# Altium schematic symbol library Integrated_Curcuits.SCHLIB: 65 symbols (part 1 of 3)
Pins are listed as number, name and electrical type; pins without a type are passive.

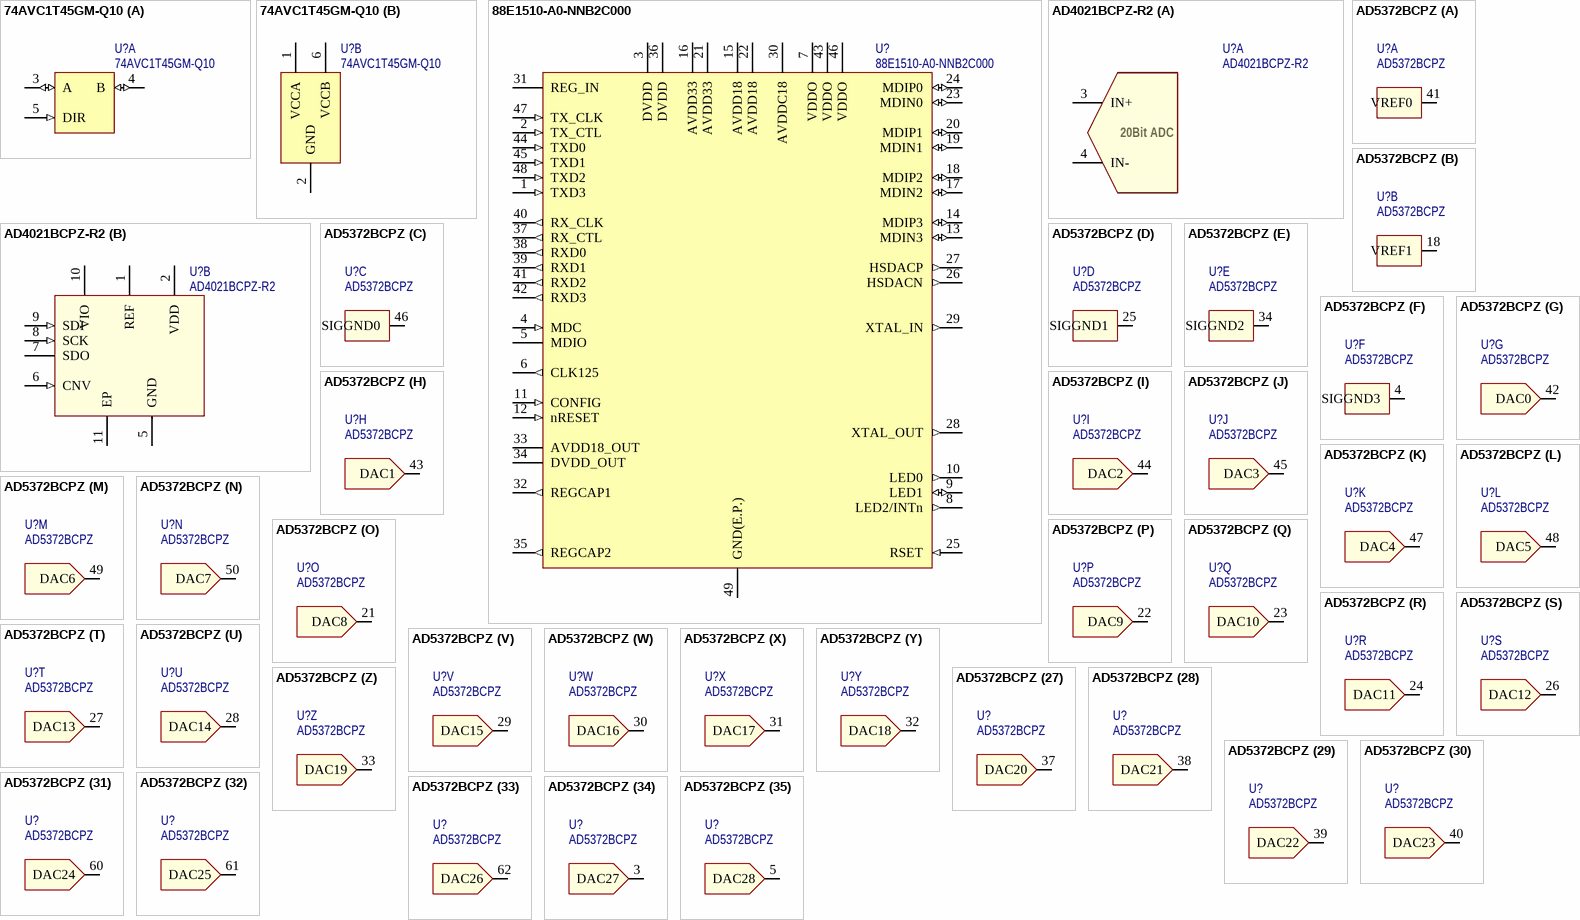
[diagram p0: symbols 74AVC1T45GM-Q10 to AD5372BCPZ]

## 74AVC1T45GM-Q10
designator U?
IC; Voltage Level Translator; Bidirectional; 1 Circuit; 1 Channel; 500Mbps; SOT886; Manufacturer: NEXPERIA; Manufacturer Part Number: 74AVC1T45GM-Q10; Supplier 1: Digi-key; ComponentLink1Description: Supplier Info; ComponentLink1URL: https://www.digikey.co.uk/en/products/detail/nexperia-usa-inc/74AVC1T45GM-Q100H/4020697?s=N4IgTCBcDaIIwHYwILQA4BsBmVGUDkAREAXQF8g; ComponentLink2Description: Datasheet; ComponentLink2URL: https://assets.nexperia.com/documents/data-sheet/74AVC1T45_Q100.pdf; Supplier Part Number 1: 1727-8637-1-ND; Value: 74AVC1T45GM-Q10
footprint NXP-SOT886 (SON, 6-Leads, Body 1.45x1.00mm, Pitch 0.50mm, IPC High Density)
part A pins: 3 A (io), 4 B (io), 5 DIR (in)
part B pins: 1 VCCA (power), 2 GND (power), 6 VCCB (power)

## 88E1510-A0-NNB2C000
designator U?
IC; Ethernet; 10/100/1000Mb/s; QFN48; Manufacturer: Marvell; Manufacturer Part Number: 88E1510-A0-NNB2C000; Supplier 1: Mouser; Supplier Part Number 1: 348-88E1510A0NNB2C00; ComponentLink1Description: Supplier Info; ComponentLink1URL: https://eu.mouser.com/ProductDetail/Marvell/88E1510-A0-NNB2C000?qs=%2Fha2pyFadujPvpXcm4trYvCwXzUYU8oAyO64EW4MIY0M8rmnB%2FMv6Nj0XhjAARXI; ComponentLink2Description: Datasheet; ComponentLink2URL: https://eu.mouser.com/datasheet/2/912/marvell-phys-transceivers-alaska-88e151x-datasheet-1360912.pdf; Value: 88E1510-A0-NNB2C000
footprint MARVEL-QFN48 (Footprint not found)
pins: 1 TXD3 (in), 2 TX_CTL (in), 3 DVDD (power), 4 MDC (in), 5 MDIO (hiz), 6 CLK125 (out), 7 VDDO (power), 8 LED2/INTn (out), 9 LED1 (io), 10 LED0 (out), 11 CONFIG (in), 12 nRESET (in), 13 MDIN3 (io), 14 MDIP3 (io), 15 AVDD18 (power), 16 AVDD33 (power), 17 MDIN2 (io), 18 MDIP2 (io), 19 MDIN1 (io), 20 MDIP1 (io), 21 AVDD33 (power), 22 AVDD18 (power), 23 MDIN0 (io), 24 MDIP0 (io), 25 RSET (in), 26 HSDACN (out), 27 HSDACP (out), 28 XTAL_OUT (out), 29 XTAL_IN (out), 30 AVDDC18 (power), 31 REG_IN (power), 32 REGCAP1 (out), 33 AVDD18_OUT (hiz), 34 DVDD_OUT (hiz), 35 REGCAP2 (out), 36 DVDD (power), 37 RX_CTL (out), 38 RXD0 (out), 39 RXD1 (out), 40 RX_CLK (out), 41 RXD2 (out), 42 RXD3 (out), 43 VDDO (power), 44 TXD0 (in), 45 TXD1 (in), 46 VDDO (power), 47 TX_CLK (in), 48 TXD2 (in), 49 GND(E.P.) (power)

## AD4021BCPZ-R2
designator U?
IC; ADC; 20Bit; SAR; LFCSP10; Manufacturer: Analog Devices Inc.; Manufacturer Part Number: AD4021BCPZ-R2; Supplier 1: Digi-Key; Supplier Part Number 1: 505-AD4021BCPZ-R2CT-ND; ComponentLink1Description: Supplier Info; ComponentLink1URL: https://www.digikey.co.uk/en/products/detail/analog-devices-inc/AD4021BCPZ-R2/11501302?s=N4IgTCBcDaIKwAY4FoCCARALAsBGAQgMIAKAWsgEpjoDSFyAcuiALoC%2BQA; ComponentLink2Description: Datasheet; ComponentLink2URL: https://www.analog.com/media/en/technical-documentation/data-sheets/AD4020-4021-4022.pdf; Value: AD4021BCPZ-R2
footprint CP-10-9 (10-LFCSP (3x3))
part A pins: 3 IN+, 4 IN-
part B pins: 1 REF, 2 VDD, 5 GND, 6 CNV (in), 7 SDO, 8 SCK (in), 9 SDI (in), 10 VIO, 11 EP
part A text: 20Bit ADC

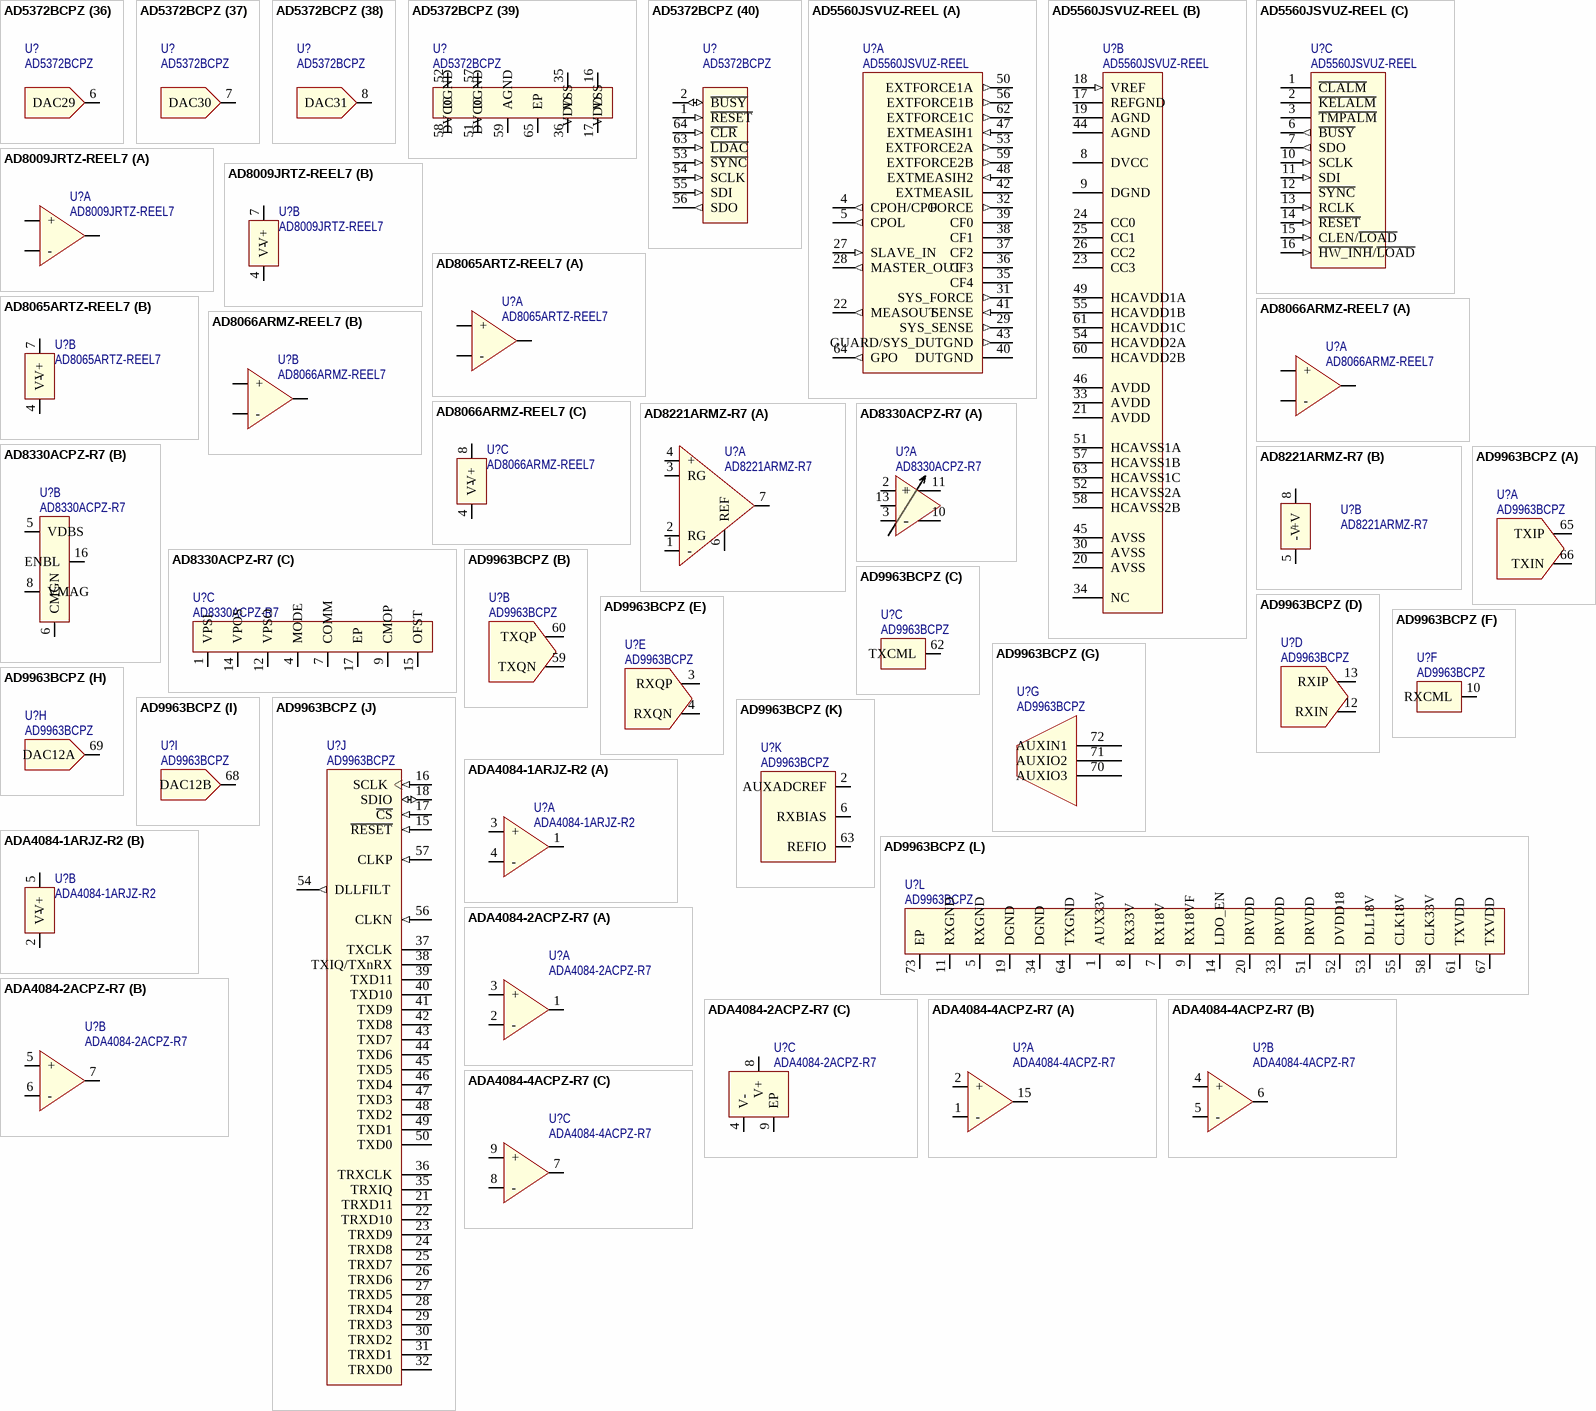
[diagram p1: symbols AD5372BCPZ to ADA4084-4ACPZ-R7]

## AD5372BCPZ
designator U?
IC; DAC; 16Bit; 32 Channel; Serial Input; LFCSP64; Manufacturer: Analog Devices Inc.; Manufacturer Part Number: AD5372BCPZ; Supplier 1: DigiKey; Supplier Part Number 1: AD5372BCPZ-ND; ComponentLink1Description: Supplier Info; ComponentLink1URL: https://www.digikey.co.uk/en/products/detail/analog-devices-inc/AD5372BCPZ/1534519?s=N4IgTCBcDaIIIBECsBmA7GAQgYQAoC0BaAOQRAF0BfIA; ComponentLink2Description: Datasheet; ComponentLink2URL: https://www.analog.com/media/en/technical-documentation/data-sheets/AD5372_5373.pdf; Value: AD5372BCPZ
footprint CP-64-3 (64-Lead Lead Frame Chip Scale Package [LFCSP_VQ])
part A pins: 41 VREF0
part B pins: 18 VREF1
part C pins: 46 SIGGND0
part D pins: 25 SIGGND1
part E pins: 34 SIGGND2
part F pins: 4 SIGGND3
part G pins: 42 DAC0
part H pins: 43 DAC1
part I pins: 44 DAC2
part J pins: 45 DAC3
part K pins: 47 DAC4
part L pins: 48 DAC5
part M pins: 49 DAC6
part N pins: 50 DAC7
part O pins: 21 DAC8
part P pins: 22 DAC9
part Q pins: 23 DAC10
part R pins: 24 DAC11
part S pins: 26 DAC12
part T pins: 27 DAC13
part U pins: 28 DAC14
part V pins: 29 DAC15
part W pins: 30 DAC16
part X pins: 31 DAC17
part Y pins: 32 DAC18
part Z pins: 33 DAC19
part 27 pins: 37 DAC20
part 28 pins: 38 DAC21
part 29 pins: 39 DAC22
part 30 pins: 40 DAC23
part 31 pins: 60 DAC24
part 32 pins: 61 DAC25
part 33 pins: 62 DAC26
part 34 pins: 3 DAC27
part 35 pins: 5 DAC28
part 36 pins: 6 DAC29
part 37 pins: 7 DAC30
part 38 pins: 8 DAC31
part 39 pins: 16 VDD, 17 VSS, 35 VDD, 36 VSS, 51 DGND, 52 DVCC, 57 DVCC, 58 DGND, 59 AGND, 65 EP
part 40 pins: 1 ~{RESET} (in), 2 ~{BUSY} (io), 53 ~{SYNC} (in), 54 SCLK (in), 55 SDI (in), 56 SDO (out), 63 ~{LDAC} (in), 64 ~{CLR} (in)
part 41 pins: 9 NC, 10 NC, 11 NC, 12 NC, 13 NC, 14 NC, 15 NC, 19 NC, 20 NC

## AD5560JSVUZ-REEL
designator U?
IC; Power Supply; TQFP64; Manufacturer: Analog Devices Inc.; Manufacturer Part Number: AD5560JSVUZ-REEL; Supplier 1: DigiKey; Supplier Part Number 1: AD5560JSVUZ-REELCT-ND; ComponentLink1Description: Supplier Info; ComponentLink1URL: https://www.digikey.co.uk/en/products/detail/analog-devices-inc/AD5560JSVUZ-REEL/2272167?s=N4IgTCBcDaIIIBECsSBsAGAUgZQGoFUAtAWgCUBRcgGQQGlTiA5BEAXQF8g; ComponentLink2Description: Datasheet; ComponentLink2URL: https://www.analog.com/media/en/technical-documentation/data-sheets/AD5560.pdf; Value: AD5560JSVUZ-REEL
footprint Q64.10x10E
part A pins: 4 CPOH/CPO (out), 5 CPOL (out), 22 MEASOUT (out), 27 SLAVE_IN (in), 28 MASTER_OUT (out), 29 SYS_SENSE (out), 31 SYS_FORCE (out), 32 FORCE (out), 35 CF4, 36 CF3, 37 CF2, 38 CF1, 39 CF0, 40 DUTGND (power), 41 SENSE (in), 42 EXTMEASIL, 43 GUARD/SYS_DUTGND (out), 47 EXTMEASIH1 (in), 48 EXTMEASIH2 (in), 50 EXTFORCE1A (out), 53 EXTFORCE2A (out), 56 EXTFORCE1B (out), 59 EXTFORCE2B (out), 62 EXTFORCE1C (out), 64 GPO (out)
part B pins: 8 DVCC (power), 9 DGND (power), 17 REFGND (power), 18 VREF (in), 19 AGND (power), 20 AVSS (power), 21 AVDD (power), 23 CC3, 24 CC0, 25 CC1, 26 CC2, 30 AVSS (power), 33 AVDD (power), 34 NC, 44 AGND (power), 45 AVSS (power), 46 AVDD (power), 49 HCAVDD1A (power), 51 HCAVSS1A (power), 52 HCAVSS2A (power), 54 HCAVDD2A (power), 55 HCAVDD1B (power), 57 HCAVSS1B (power), 58 HCAVSS2B (power), 60 HCAVDD2B (power), 61 HCAVDD1C (power), 63 HCAVSS1C (power)
part C pins: 1 ~{CLALM}, 2 ~{KELALM}, 3 ~{TMPALM}, 6 ~{BUSY} (out), 7 SDO (out), 10 SCLK (in), 11 SDI (in), 12 ~{SYNC}, 13 RCLK (in), 14 ~{RESET} (in), 15 CLEN/~{LOAD} (in), 16 ~{HW_INH}/~{LOAD} (in)

## AD8009JRTZ-REEL7
designator U?
IC; OPAMP; CFA; 845MHz; SOT23-5; Manufacturer: Analog Devices Inc.; Manufacturer Part Number: AD8009JRTZ-REEL7; Supplier 1: DigiKey; Supplier Part Number 1: AD8009JRTZ-REEL7CT-ND; ComponentLink1Description: Supplier Info; ComponentLink1URL: https://www.digikey.co.uk/en/products/detail/analog-devices-inc/AD8009JRTZ-REEL7/995931?s=N4IgTCBcDaIIIBEAcAGFBOAUgJQCoC0BabAURIBkB2BAaW0IDkEQBdAXyA; ComponentLink2Description: Datasheet; ComponentLink2URL: https://www.analog.com/media/en/technical-documentation/data-sheets/AD8009.pdf; Value: AD8009JRTZ-REEL7
simulation model AD8009AN (Model Description)
footprint SOT23-5 (SOT 23 5 lead); pin to pad 2>4 4>2 6>1 7>5
part A pins: 2 -, 3 +, 6 Out
part B pins: 4 V-, 7 V+

## AD8065ARTZ-REEL7
designator U?
IC; OPAMP; VFB; 145MHz; SOT23-5; Manufacturer: Analog Devices Inc.; Manufacturer Part Number: AD8065ARTZ-REEL7; Supplier 1: DigiKey; Supplier Part Number 1: AD8065ARTZ-REEL7CT-ND; ComponentLink1Description: Supplier Info; ComponentLink1URL: https://www.digikey.co.uk/en/products/detail/analog-devices-inc/AD8065ARTZ-REEL7/671052?s=N4IgTCBcDaIIIBEAcAGAbAVjgJQCoC0BabAURIBkB2BAaW0IDkEQBdAXyA; ComponentLink2Description: Datasheet; ComponentLink2URL: http://www.analog.com/media/en/technical-documentation/data-sheets/AD8065_8066.pdf; Value: AD8065ARTZ-REEL7
simulation model AD8065 (Model Description)
footprint SOT23-5 (SOT 23 5 lead)
part A pins: 1 Out, 3 +, 4 -
part B pins: 4 V-, 7 V+

## AD8066ARMZ-REEL7
designator U?
IC; OPAMP; VFB; 145MHz; MSOP8; Manufacturer: Analog Devices Inc.; Manufacturer Part Number: AD8066ARMZ-REEL7; Supplier 1: DigiKey; Supplier Part Number 1: AD8066ARMZ-REEL7CT-ND; ComponentLink1Description: Supplier Info; ComponentLink1URL: https://www.digikey.co.uk/en/products/detail/analog-devices-inc/AD8066ARMZ-REEL7/996103?s=N4IgTCBcDaIIIBEAcAGAbGuAlAsgLQFosBRYgGQHYEBpLAgOQRAF0BfIA; ComponentLink2Description: Datasheet; ComponentLink2URL: https://www.analog.com/media/en/technical-documentation/data-sheets/AD8065_8066.pdf; Value: AD8066ARMZ-REEL7
footprint MSOP8(RM-8) (8-Lead MSOP)
part A pins: 1 Out, 2 -, 3 +
part B pins: 5 +, 6 -, 7 Out
part C pins: 4 V-, 8 V+

## AD8221ARMZ-R7
designator U?
IC; Instrumentation Amplifier; 1 Circuit; MSOP8; Manufacturer: Analog Devices Inc.; Manufacturer Part Number: AD8221ARMZ-R7; Supplier 1: DigiKey; Supplier Part Number 1: AD8221ARMZ-R7CT-ND; ComponentLink1Description: Supplier Info; ComponentLink1URL: https://www.digikey.co.uk/en/products/detail/analog-devices-inc/AD8221ARMZ-R7/996058?s=N4IgTCBcDaIIIBEAcYwEY4CUCyAtAtJgOwIDSm%2BAcgiALoC%2BQA; ComponentLink2Description: Datasheet; ComponentLink2URL: https://www.analog.com/media/en/technical-documentation/data-sheets/AD8221.pdf; Value: AD8221ARMZ-R7
footprint MSOP8(RM-8) (8-Lead MSOP)
part A pins: 1 -, 2 RG, 3 RG, 4 +, 6 REF, 7 VOUT
part B pins: 5 -V (power), 8 +V (power)

## AD8330ACPZ-R7
designator U?
IC; OPAMP; VGA; 150MHz; LFCSP16; Manufacturer: Analog Devices Inc.; Manufacturer Part Number: AD8330ACPZ-R7; Supplier 1: DigiKey; Supplier Part Number 1: AD8330ACPZ-R7DKR-ND; ComponentLink1Description: Supplier Info; ComponentLink1URL: https://www.digikey.co.uk/en/products/detail/analog-devices-inc/AD8330ACPZ-R7/819985?s=N4IgTCBcDaIIIBEAcBmFAGOBhACgLQFoAlAdgQGkiCA5BEAXQF8g; ComponentLink2Description: Datasheet; ComponentLink2URL: https://www.analog.com/media/en/technical-documentation/data-sheets/AD8330.pdf; Value: AD8330ACPZ-R7
footprint CP-16-27 (16 lead LFCSP)
part A pins: 2 + "INHI", 3 - "INLO", 10 - "OPLO", 11 + "OPHI", 13 CNTR
part B pins: 5 VDBS, 6 CMGN "VDBS", 8 VMAG, 16 ENBL
part C pins: 1 VPSI, 4 MODE, 7 COMM, 9 CMOP, 12 VPSO, 14 VPOS, 15 OFST, 17 EP
1 alternate drawing of the same symbol

## AD9963BCPZ
designator U?
IC; Broadband Front-End; LFCSP72; Manufacturer: Analog Devices Inc.; Manufacturer Part Number: AD9963BCPZ; Supplier 1: DigiKey; Supplier Part Number 1: AD9963BCPZ-ND; ComponentLink1Description: Supplier Info; ComponentLink1URL: https://www.digikey.co.uk/en/products/detail/analog-devices-inc/AD9963BCPZ/2606835?s=N4IgTCBcDaIIIBECcSBsBmAQgYQAoC0BaAOQRAF0BfIA; ComponentLink2Description: Datasheet; ComponentLink2URL: https://www.analog.com/media/en/technical-documentation/data-sheets/AD9961_9963.pdf; Value: AD9963BCPZ
ibis AD9963 (Model Description)
footprint CP-72-4 (72 Lead LFCSP_VQ (10x10mm))
part A pins: 65 TXIP, 66 TXIN
part B pins: 59 TXQN, 60 TXQP
part C pins: 62 TXCML
part D pins: 12 RXIN, 13 RXIP
part E pins: 3 RXQP, 4 RXQN
part F pins: 10 RXCML
part G pins: 70 AUXIO3, 71 AUXIO2, 72 AUXIN1
part H pins: 69 DAC12A
part I pins: 68 DAC12B
part J pins: 15 ~{RESET} (in) "RESET", 16 SCLK (in) "CK", 17 ~{CS} (in) "STB", 18 SDIO (io), 21 TRXD11, 22 TRXD10, 23 TRXD9, 24 TRXD8, 25 TRXD7, 26 TRXD6, 27 TRXD5, 28 TRXD4, 29 TRXD3, 30 TRXD2, 31 TRXD1, 32 TRXD0, 35 TRXIQ, 36 TRXCLK, 37 TXCLK, 38 TXIQ/TXnRX, 39 TXD11, 40 TXD10, 41 TXD9, 42 TXD8, 43 TXD7, 44 TXD6, 45 TXD5, 46 TXD4, 47 TXD3, 48 TXD2, 49 TXD1, 50 TXD0, 54 DLLFILT (out), 56 CLKN (in), 57 CLKP (in)
part K pins: 2 AUXADCREF, 6 RXBIAS, 63 REFIO
part L pins: 1 AUX33V, 5 RXGND, 7 RX18V, 8 RX33V, 9 RX18VF, 11 RXGND, 14 LDO_EN, 19 DGND, 20 DRVDD, 33 DRVDD, 34 DGND, 51 DRVDD, 52 DVDD18, 53 DLL18V, 55 CLK18V, 58 CLK33V, 61 TXVDD, 64 TXGND, 67 TXVDD, 73 EP

## ADA4084-1ARJZ-R2
designator U?
IC; OPAMP; General Purpose; 1 Circuit; SOT23-5; Manufacturer: Analog Devices Inc.; Manufacturer Part Number: ADA4084-1ARJZ-R2; Supplier 1: DigiKey; Supplier Part Number 1: ADA4084-1ARJZ-R2CT-ND; ComponentLink1Description: Supplier Info; ComponentLink1URL: https://www.digikey.co.uk/en/products/detail/analog-devices-inc/ADA4084-1ARJZ-R2/5441104?s=N4IgTCBcDaIIIBE4BYAMAOZBaAjHASgFIBaW%2BYCA0vlgHIIgC6AvkA; ComponentLink2Description: Datasheet; ComponentLink2URL: https://www.analog.com/media/en/technical-documentation/data-sheets/ADA4084-1_4084-2_4084-4.pdf; Value: ADA4084-1ARJZ-R2
footprint SOT23-5 (SOT 23 5 lead)
part A pins: 1 VOUT, 3 +, 4 -
part B pins: 2 V-, 5 V+

## ADA4084-2ACPZ-R7
designator U?
IC; OPAMP; General Purpose; 2 Circuits; LFCSP8; Manufacturer: Analog Devices Inc.; Manufacturer Part Number: ADA4084-2ACPZ-R7; Supplier 1: DigiKey; Supplier Part Number 1: ADA4084-2ACPZ-R7-CT-ND; ComponentLink1Description: Supplier Info; ComponentLink1URL: https://www.digikey.co.uk/en/products/detail/analog-devices-inc/ADA4084-2ACPZ-R7/3542857?s=N4IgTCBcDaIIIBE4BYAMAOZBaMcDCACgFpYBKA7FggNKlYByCIAugL5A; ComponentLink2Description: Datasheet; ComponentLink2URL: https://www.analog.com/media/en/technical-documentation/data-sheets/ADA4084-1_4084-2_4084-4.pdf; Value: ADA4084-2ACPZ-R7
footprint CP-8-11 (8-Lead LFCSP (3X3))
part A pins: 1 OUTA, 2 -, 3 +
part B pins: 5 +, 6 -, 7 OUTB
part C pins: 4 V-, 8 V+, 9 EP

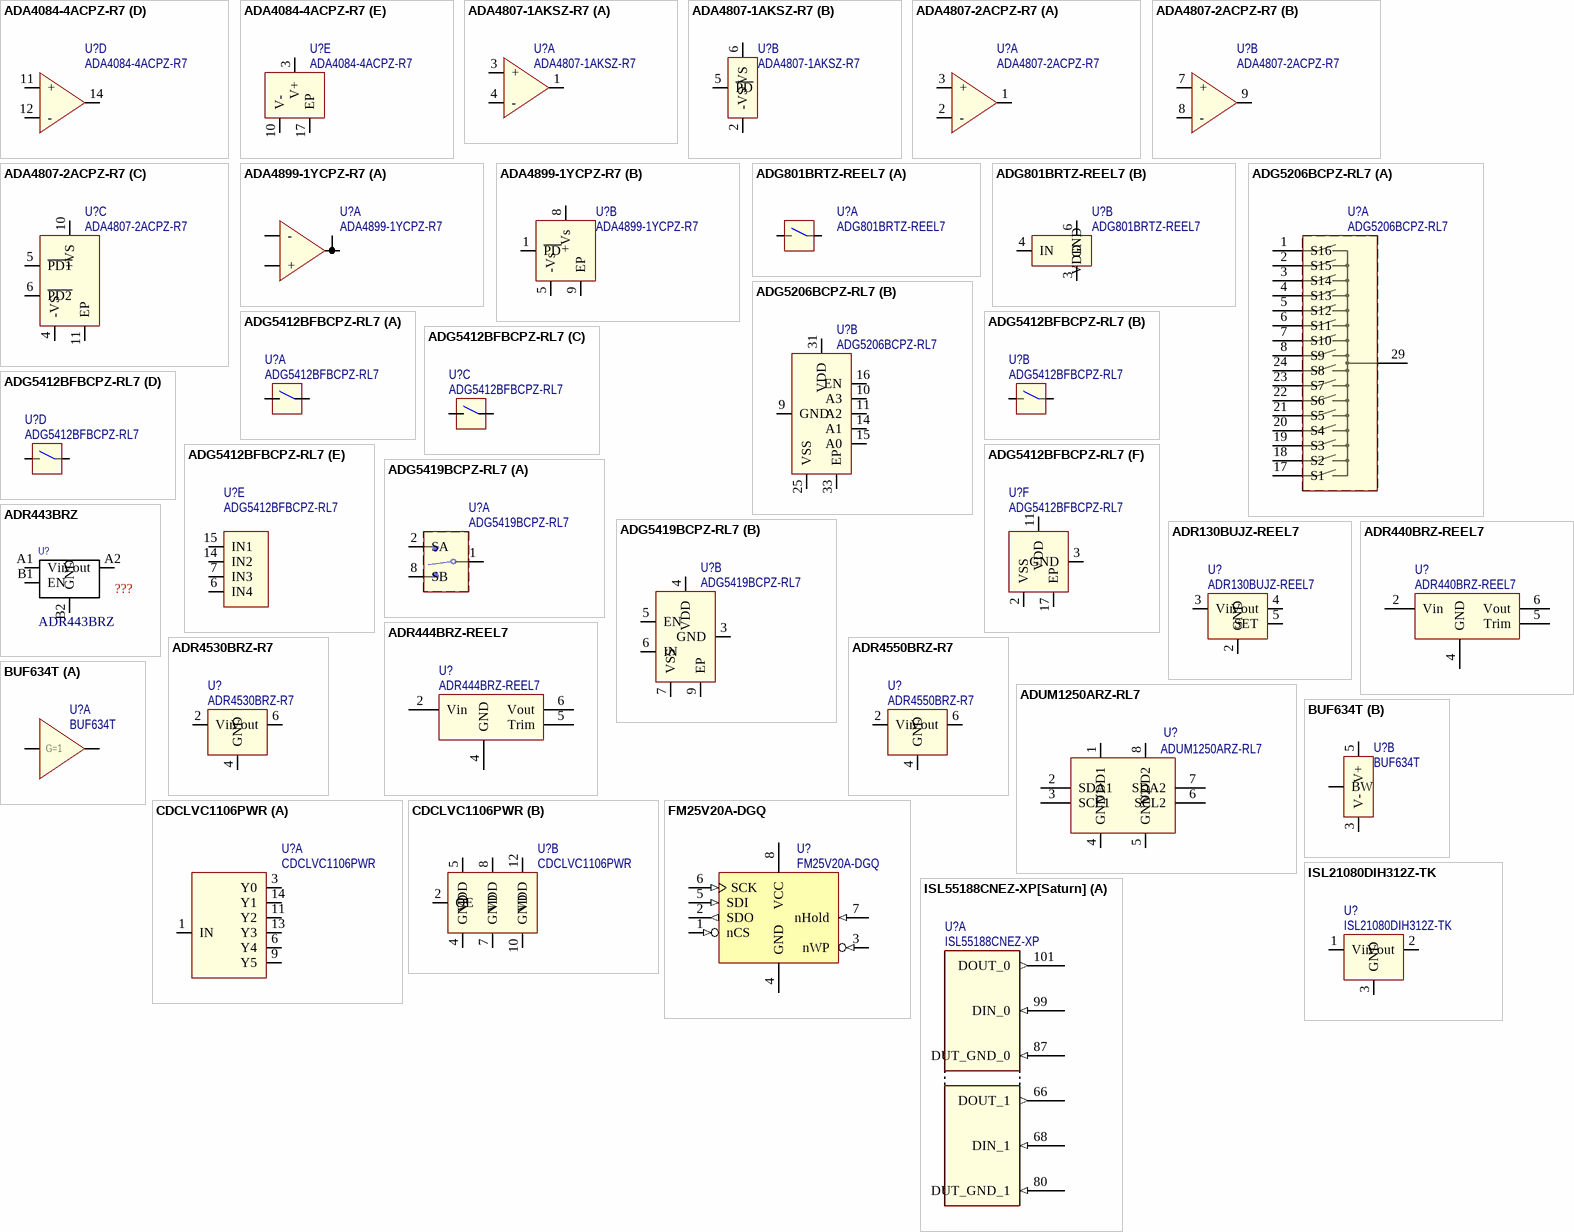
[diagram p2: symbols ADA4084-4ACPZ-R7 to ISL55188CNEZ-XP[Saturn]]

## ADA4084-4ACPZ-R7
designator U?
IC; OPAMP; General Purpose; 4 Circuits; LFCSP16; Manufacturer: Analog Devices Inc.; Manufacturer Part Number: ADA4084-4ACPZ-R7; Supplier 1: DigiKey; Supplier Part Number 1: ADA4084-4ACPZ-R7DKR-ND; ComponentLink1Description: Supplier Info; ComponentLink1URL: https://www.digikey.co.uk/en/products/detail/analog-devices-inc/ADA4084-4ACPZ-R7/4916394?s=N4IgTCBcDaIIIBE4BYAMAOZBaZcDCACgFpYBKA7AgNKlYByCIAugL5A; ComponentLink2Description: Datasheet; ComponentLink2URL: https://www.analog.com/media/en/technical-documentation/data-sheets/ADA4084-1_4084-2_4084-4.pdf; Value: ADA4084-4ACPZ-R7
footprint CP-16-17 (Lead Frame Chip Scale Package, 16-Lead, 4x4mm)
part A pins: 1 -, 2 +, 15 OUTA
part B pins: 4 +, 5 -, 6 OUTB
part C pins: 7 OUTC, 8 -, 9 +
part D pins: 11 +, 12 -, 14 OUTD
part E pins: 3 V+, 10 V-, 17 EP

## ADA4807-1AKSZ-R7
designator U?
IC; OPAMP; VFB; 1 Circuit; SC70-6; Manufacturer: Analog Devices Inc.; Manufacturer Part Number: ADA4807-1AKSZ-R7; Supplier 1: DigiKey; Supplier Part Number 1: ADA4807-1AKSZ-R7DKR-ND; ComponentLink1Description: Supplier Info; ComponentLink1URL: https://www.digikey.co.uk/en/products/detail/analog-devices-inc/ADA4807-1AKSZ-R7/5056858?s=N4IgTCBcDaIIIBE4BYAcAGA7AWgIxwGkBlALWwCVMEDzsA5BEAXQF8g; ComponentLink2Description: Datasheet; ComponentLink2URL: https://www.analog.com/media/en/technical-documentation/data-sheets/ADA4807-1_4807-2_4807-4.pdf; Value: ADA4807-1AKSZ-R7
footprint SC70-6
part A pins: 1 VOUT, 3 +, 4 -
part B pins: 2 -VS, 5 ~{PD}, 6 +VS

## ADA4807-2ACPZ-R7
designator U?
IC; OPAMP; VFB; 1 Circuit; LFCSP10; Manufacturer: Analog Devices Inc.; Manufacturer Part Number: ADA4807-2ACPZ-R7; Supplier 1: DigiKey; Supplier Part Number 1: ADA4807-2ACPZ-R7TR-ND; ComponentLink1Description: Supplier Info; ComponentLink1URL: https://www.digikey.co.uk/en/products/detail/analog-devices-inc/ADA4807-2ACPZ-R7/5268025?s=N4IgTCBcDaIIIBE4BYAcAGA7AWjHAwgAoBa2ASpgCpnYByCIAugL5A; ComponentLink2Description: Datasheet; ComponentLink2URL: https://www.analog.com/media/en/technical-documentation/data-sheets/ADA4807-1_4807-2_4807-4.pdf; Value: ADA4807-2ACPZ-R7
footprint CP-10-9 (10-LFCSP (3x3))
part A pins: 1 VOUT, 2 -, 3 +
part B pins: 7 +, 8 -, 9 VOUT2
part C pins: 4 -VS, 5 ~{PD1}, 6 ~{PD2}, 10 +VS, 11 EP

## ADA4899-1YCPZ-R7
designator U?
IC; OPAMP; VFB; 600MHz; LFCSP8; Manufacturer: Analog Devices Inc.; Manufacturer Part Number: ADA4899-1YCPZ-R7; Supplier 1: DigiKey; Supplier Part Number 1: ADA4899-1YCPZ-R7DKR-ND; ComponentLink1Description: Supplier Info; ComponentLink1URL: https://www.digikey.co.uk/en/products/detail/analog-devices-inc/ADA4899-1YCPZ-R7/1201182?s=N4IgTCBcDaIIIBE4BYAcBOdBaAjATQGEAFALSwCUB2BAaXKwDkEQBdAXyA; ComponentLink2Description: Datasheet; ComponentLink2URL: https://www.analog.com/media/en/technical-documentation/data-sheets/ADA4899-1.pdf; Value: ADA4899-1YCPZ-R7
footprint CP-8-13
part A pins: 2 FB, 3 -, 4 +, 7 OUT
part B pins: 1 ~{PD}, 5 -Vs, 8 +Vs, 9 EP
1 alternate drawing of the same symbol

## ADG801BRTZ-REEL7
designator U?
IC; Switch; SPST-NO; 1:1; 300mR; SOT23-6; Manufacturer: Analog Devices Inc.; Manufacturer Part Number: ADG801BRTZ-REEL7; Supplier 1: DigiKey; Supplier Part Number 1: ADG801BRTZ-REEL7TR-ND; ComponentLink1Description: Supplier Info; ComponentLink1URL: https://www.digikey.co.uk/en/products/detail/analog-devices-inc/ADG801BRTZ-REEL7/995397?s=N4IgTCBcDaIIIBEDiAOADARgEICUAqAWgLQ4CipAMgOx45EByCIAugL5A; ComponentLink2Description: Datasheet; ComponentLink2URL: https://www.analog.com/media/en/technical-documentation/data-sheets/ADG801_802.pdf; Value: ADG801BRTZ-REEL7
footprint SOT23-6 (RJ-6)
part A pins: 1 D, 2 S
part B pins: 3 GND, 4 IN, 6 VDD (power)

## ADG5206BCPZ-RL7
designator U?
IC; MUX; 1 Circuit X 16:1; LFCSP32; Manufacturer: Analog Devices; Manufacturer Part Number: ADG5206BCPZ-RL7; Supplier 1: Digi-Key; Supplier Part Number 1: ADG5206BCPZ-RL7CT-ND; ComponentLink1Description: Supplier Info; ComponentLink1URL: https://www.digikey.co.uk/en/products/detail/analog-devices-inc/ADG5206BCPZ-RL7/4250212?s=N4IgTCBcDaIIIBEDiBWMAGAbAIQMIAUAtAWgCUAZAdlwBViA5BEAXQF8g; ComponentLink2Description: Datasheet; ComponentLink2URL: http://www.analog.com/media/en/technical-documentation/data-sheets/ADG5206_5207.pdf; Value: ADG5206BCPZ-RL7
footprint LFCSP32
part A pins: 1 S16, 2 S15, 3 S14, 4 S13, 5 S12, 6 S11, 7 S10, 8 S9, 17 S1, 18 S2, 19 S3, 20 S4, 21 S5, 22 S6, 23 S7, 24 S8, 29 DA
part B pins: 9 GND, 10 A3, 11 A2, 14 A1, 15 A0, 16 EN, 25 VSS (power), 31 VDD (power), 33 EP (power)

## ADG5412BFBCPZ-RL7
designator U?
IC; Switch; 4 Circuits; SPST-NO; LFCSP16; Manufacturer: Analog Devices Inc.; Manufacturer Part Number: ADG5412BFBCPZ-RL7; Supplier 1: DigiKey; Supplier Part Number 1: ADG5412BFBCPZ-RL7DKR-ND; ComponentLink1Description: Supplier Info; ComponentLink1URL: https://www.digikey.co.uk/en/products/detail/analog-devices-inc/ADG5412BFBCPZ-RL7/5232898?s=N4IgTCBcDaIIIBEDiBWALARjAIQGLYGEAFALQFoAlAGQHYEBpCsgOQRAF0BfIA; ComponentLink2Description: Datasheet; ComponentLink2URL: https://www.analog.com/media/en/technical-documentation/data-sheets/ADG5412BF_5413BF.pdf; Value: ADG5412BFBCPZ-RL7
footprint CP-16-17 (16 lead LFCSP 4x4mm)
part A pins: 1 S1, 16 D1
part B pins: 12 S2, 13 D2
part C pins: 8 D3, 9 S3
part D pins: 4 S4, 5 D4
part E pins: 6 IN4, 7 IN3, 14 IN2, 15 IN1
part F pins: 2 VSS (power), 3 GND, 11 VDD (power), 17 EP (power)

## ADG5419BCPZ-RL7
designator U?
IC; Switch; 1 Circuit 2:1 ; SPDT; LFCSP8; Manufacturer: Analog Devices Inc.; Manufacturer Part Number: ADG5419BCPZ-RL7; Supplier 1: DigiKey; Supplier Part Number 1: ADG5419BCPZ-RL7DKR-ND; ComponentLink1Description: Supplier Info; ComponentLink1URL: https://www.digikey.co.uk/en/products/detail/analog-devices-inc/ADG5419BCPZ-RL7/5233063?s=N4IgTCBcDaIIIBEDiBWALARgJwCEDCACgFoC0ASgDIDsCA0mSQHIIgC6AvkA; ComponentLink2Description: Datasheet; ComponentLink2URL: https://www.analog.com/media/en/technical-documentation/data-sheets/ADG5419.pdf; Value: ADG5419BCPZ-RL7
footprint CP-8-4 (8-Lead LFCSP_WD (2x3mm))
part A pins: 1 D, 2 SA, 8 SB
part B pins: 3 GND, 4 VDD (power), 5 EN, 6 IN, 7 VSS (power), 9 EP (power)

## ADR130BUJZ-REEL7
designator U?
IC: Series VREF; 0.35%; TSOT6; Manufacturer: Analog Devices Inc.; Manufacturer Part Number: ADR130BUJZ-REEL7; Supplier 1: DigiKey; Supplier Part Number 1: ADR130BUJZ-REEL7DKR-ND; ComponentLink1Description: Supplier Info; ComponentLink1URL: https://www.digikey.co.uk/en/products/detail/analog-devices-inc/ADR130BUJZ-REEL7/1530758?s=N4IgTCBcDaIIIBEBKBGAzABgEIFUBSAWgLRICipAMgOwIDSSRAcgiALoC%2BQA; ComponentLink2Description: Datasheet; ComponentLink2URL: https://www.analog.com/media/en/technical-documentation/data-sheets/ADR130.pdf; Value: ADR130BUJZ-REEL7
footprint UJ-6 (6-Lead Thin Small Outline Transistor Package [TSOT])
pins: 2 GND, 3 Vin, 4 Vout, 5 SET

## ADR440BRZ-REEL7
designator U?
IC; Series VREF; 2.048V; 0.05%; SOIC8; Manufacturer: Analog Devices Inc.; Manufacturer Part Number: ADR440BRZ-REEL7; Supplier 1: DigiKey; Supplier Part Number 1: ADR440BRZ-REEL7DKR-ND; ComponentLink1Description: Supplier Info; ComponentLink1URL: https://www.digikey.co.uk/en/products/detail/analog-devices-inc/ADR440BRZ-REEL7/1218279?s=N4IgTCBcDaIIIBEBKAWFAGAQkgWgWiQFFCAZAdgQGkk8A5BEAXQF8g; ComponentLink2Description: Datasheet; ComponentLink2URL: https://www.analog.com/media/en/technical-documentation/data-sheets/ADR440_441_443_444_445.pdf; Value: ADR440BRZ-REEL7
footprint SOIC8 (R-8) (Generic 8 lead SOIC Narrow Body)
pins: 2 Vin, 4 GND, 5 Trim, 6 Vout

## ADR443BRZ
designator U?
IC REG LINEAR 1.8V 150MA 4WLCSP; Manufacturer: Analog Devices Inc.; Manufacturer Part Number: ADR443BRZ; Supplier 1: DigiKey; Supplier Part Number 1: ADR443BRZ-ND; ComponentLink1Description: Supplier Info; ComponentLink1URL: https://www.digikey.co.uk/en/products/detail/analog-devices-inc/ADR443BRZ/1217605?s=N4IgTCBcDaIIIBEBKAWFBmAQkgWgWgDkEQBdAXyA; ComponentLink2Description: Datasheet; ComponentLink2URL: https://www.analog.com/media/en/technical-documentation/data-sheets/ADR440_441_443_444_445.pdf; Value: ADR443BRZ
footprint CB-4-1 (4-Ball WLCSP)
pins: A1 Vin, A2 Vout, B1 EN, B2 GND
text: ???

## ADR444BRZ-REEL7
designator U?
IC; Series VREF; 4.096V; 0.04%; SOIC8; Manufacturer: Analog Devices Inc.; Manufacturer Part Number: ADR444BRZ-REEL7; Supplier 1: DigiKey; Supplier Part Number 1: ADR444BRZ-REEL7DKR-ND; ComponentLink1Description: Supplier Info; ComponentLink1URL: https://www.digikey.co.uk/en/products/detail/analog-devices-inc/ADR444BRZ-REEL7/1218292?s=N4IgTCBcDaIIIBEBKAWNAhJAtAtEgovgDIDsCA0kjgHIIgC6AvkA; ComponentLink2Description: Datasheet; ComponentLink2URL: https://www.analog.com/media/en/technical-documentation/data-sheets/ADR440_441_443_444_445.pdf; Value: ADR444BRZ-REEL7
footprint SOIC8 (R-8) (Generic 8 lead SOIC Narrow Body)
pins: 2 Vin, 4 GND, 5 Trim, 6 Vout

## ADR4530BRZ-R7
designator U?
IC; Series VREF; 3V; 0.02%; SOIC8; Manufacturer: Analog Devices Inc.; Manufacturer Part Number: ADR4530BRZ-R7; Supplier 1: DigiKey; Supplier Part Number 1: 505-ADR4530BRZ-R7DKR-ND; ComponentLink1Description: Supplier Info; ComponentLink1URL: https://www.digikey.co.uk/en/products/detail/analog-devices-inc/ADR4530BRZ-R7/3542869?s=N4IgTCBcDaIKwAY4FoCCARASgFjgZgQCFMAtZTAdnQGlNkA5dEAXQF8g; ComponentLink2Description: Datasheet; ComponentLink2URL: https://www.analog.com/media/en/technical-documentation/data-sheets/ADR4520_4525_4530_4533_4540_4550.pdf; Value: ADR4530BRZ-R7
footprint SOIC8 (R-8) (Generic 8 lead SOIC Narrow Body)
pins: 2 Vin, 4 GND, 6 Vout

## ADR4550BRZ-R7
designator U?
IC; Series VREF; 5V; 0.02%; SOIC8; Manufacturer: Analog Devices Inc.; Manufacturer Part Number: ADR4550BRZ-R7; Supplier 1: DigiKey; Supplier Part Number 1: ADR4550BRZ-R7DKR-ND; ComponentLink1Description: Supplier Info; ComponentLink1URL: https://www.digikey.co.uk/en/products/detail/analog-devices-inc/ADR4550BRZ-R7/3232887?s=N4IgTCBcDaIIIBEBKAWArGgDAISQLQFokB2BAaSQIDkEQBdAXyA; ComponentLink2Description: Datasheet; ComponentLink2URL: https://www.analog.com/media/en/technical-documentation/data-sheets/ADR4520_4525_4530_4533_4540_4550.pdf; Value: ADR4550BRZ-R7
footprint SOIC8 (R-8) (Generic 8 lead SOIC Narrow Body)
pins: 2 Vin, 4 GND, 6 Vout

## ADUM1250ARZ-RL7
designator U?
IC; I2C Digital Isolator; 2500Vrms; 2 Channel; SOIC8; Manufacturer: Analog Devices Inc.; Manufacturer Part Number: ADUM1250ARZ-RL7; Supplier 1: DigiKey; Supplier Part Number 1: ADUM1250ARZ-RL7DKR-ND; ComponentLink1Description: Supplier Info; ComponentLink1URL: https://www.digikey.co.uk/en/products/detail/analog-devices-inc/ADUM1250ARZ-RL7/1240292?s=N4IgTCBcDaIIIBECqBZAjGArABjgJQC0BaPAGQHYEBpPIgOQRAF0BfIA; ComponentLink2Description: Datasheet; ComponentLink2URL: https://www.analog.com/media/en/technical-documentation/data-sheets/ADUM1250_1251.pdf; Value: ADUM1250ARZ-RL7
footprint SOIC8 (R-8) (Generic 8 lead SOIC Narrow Body)
pins: 1 VDD1, 2 SDA1, 3 SCL1, 4 GND1, 5 GND2, 6 SCL2, 7 SDA2, 8 VDD2

## BUF634T
designator U?
IC; Buffer Amplifier; 1 Circuit; 180MHz; TO220-5; Manufacturer: Texas Instruments; Manufacturer Part Number: BUF634T; Supplier 1: DigiKey; Supplier Part Number 1: BUF634T-ND; ComponentLink1Description: Supplier Info; ComponentLink1URL: https://www.digikey.de/product-detail/en/texas-instruments/BUF634T/BUF634T-ND/251039; ComponentLink2Description: Datasheet; ComponentLink2URL: http://www.ti.com/lit/ds/symlink/buf634.pdf; Value: BUF634T
footprint TO-220-5-Standing
part A pins: 2 IN, 4 OUT
part B pins: 1 BW, 3 V-, 5 V+
part A text: G=1

## CDCLVC1106PWR
designator U?
IC; Clock Fanout Buffer; 1:6; 250MHz; TSSOP14; Manufacturer: Texas Instruments; Manufacturer Part Number: CDCLVC1106PWR; Supplier 1: DigiKey; Supplier Part Number 1: 296-27588-6-ND; ComponentLink1Description: Supplier Info; ComponentLink1URL: https://www.digikey.co.uk/en/products/detail/texas-instruments/CDCLVC1106PWR/2336535?s=N4IgTCBcDa4JwDYC0YDsBWAHJpyByAIiALoC%2BQA; ComponentLink2Description: Datasheet; ComponentLink2URL: http://www.ti.com/lit/ds/symlink/cdclvc1104.pdf; Value: CDCLVC1106PWR
footprint TSSOP14(R-PDSO-G14)
part A pins: 1 IN, 3 Y0, 6 Y4, 9 Y5, 11 Y2, 13 Y3, 14 Y1
part B pins: 2 OE, 4 GND, 5 VDD, 7 GND, 8 VDD, 10 GND, 12 VDD

## FM25V20A-DGQ
designator U?
IC; FRAM; 2Mb (256Kx8); SPI; 40MHz; TDFN8; Manufacturer: Cypress Semiconductor Corp; Manufacturer Part Number: FM25V20A-DGQ; Supplier 1: DigiKey; Supplier Part Number 1: 428-3378-5-ND; ComponentLink1Description: Supplier Info; ComponentLink1URL: https://www.digikey.co.uk/en/products/detail/cypress-semiconductor-corp/FM25V20A-DGQ/5113877?s=N4IgTCBcDaICxgBwFoDMqDsKCsyByAIiALoC%2BQA; ComponentLink2Description: Datasheet; ComponentLink2URL: https://www.cypress.com/file/136076/download; Value: FM25V20A-DGQ
footprint TDFN8
pins: 1 nCS (in), 2 SDO (out), 3 nWP (in), 4 GND (power), 5 SDI (in), 6 SCK (in), 7 nHold (in), 8 VCC (power)

## ISL21080DIH312Z-TK
designator U?
IC; Series VREF; 1.25V; 0.6%; SOT23-3; Manufacturer: Renesas Electronics America Inc.; Manufacturer Part Number: ISL21080DIH312Z-TK; Supplier 1: DigiKey; Supplier Part Number 1: ISL21080DIH312Z-TKDKR-ND; ComponentLink1Description: Supplier Info; ComponentLink1URL: https://www.digikey.co.uk/en/products/detail/renesas-electronics-america-inc/ISL21080DIH312Z-TK/2551515?s=N4IgTCBcDaIJIGUAyYCMAGAHOgInAEgMypgBaAtACoDSO1ASuQHI4gC6AvkA; ComponentLink2Description: Datasheet; ComponentLink2URL: http://www.intersil.com/content/dam/Intersil/documents/isl2/isl21080.pdf; Value: ISL21080DIH312Z-TK
footprint SOT23
pins: 1 Vin, 2 Vout, 3 GND

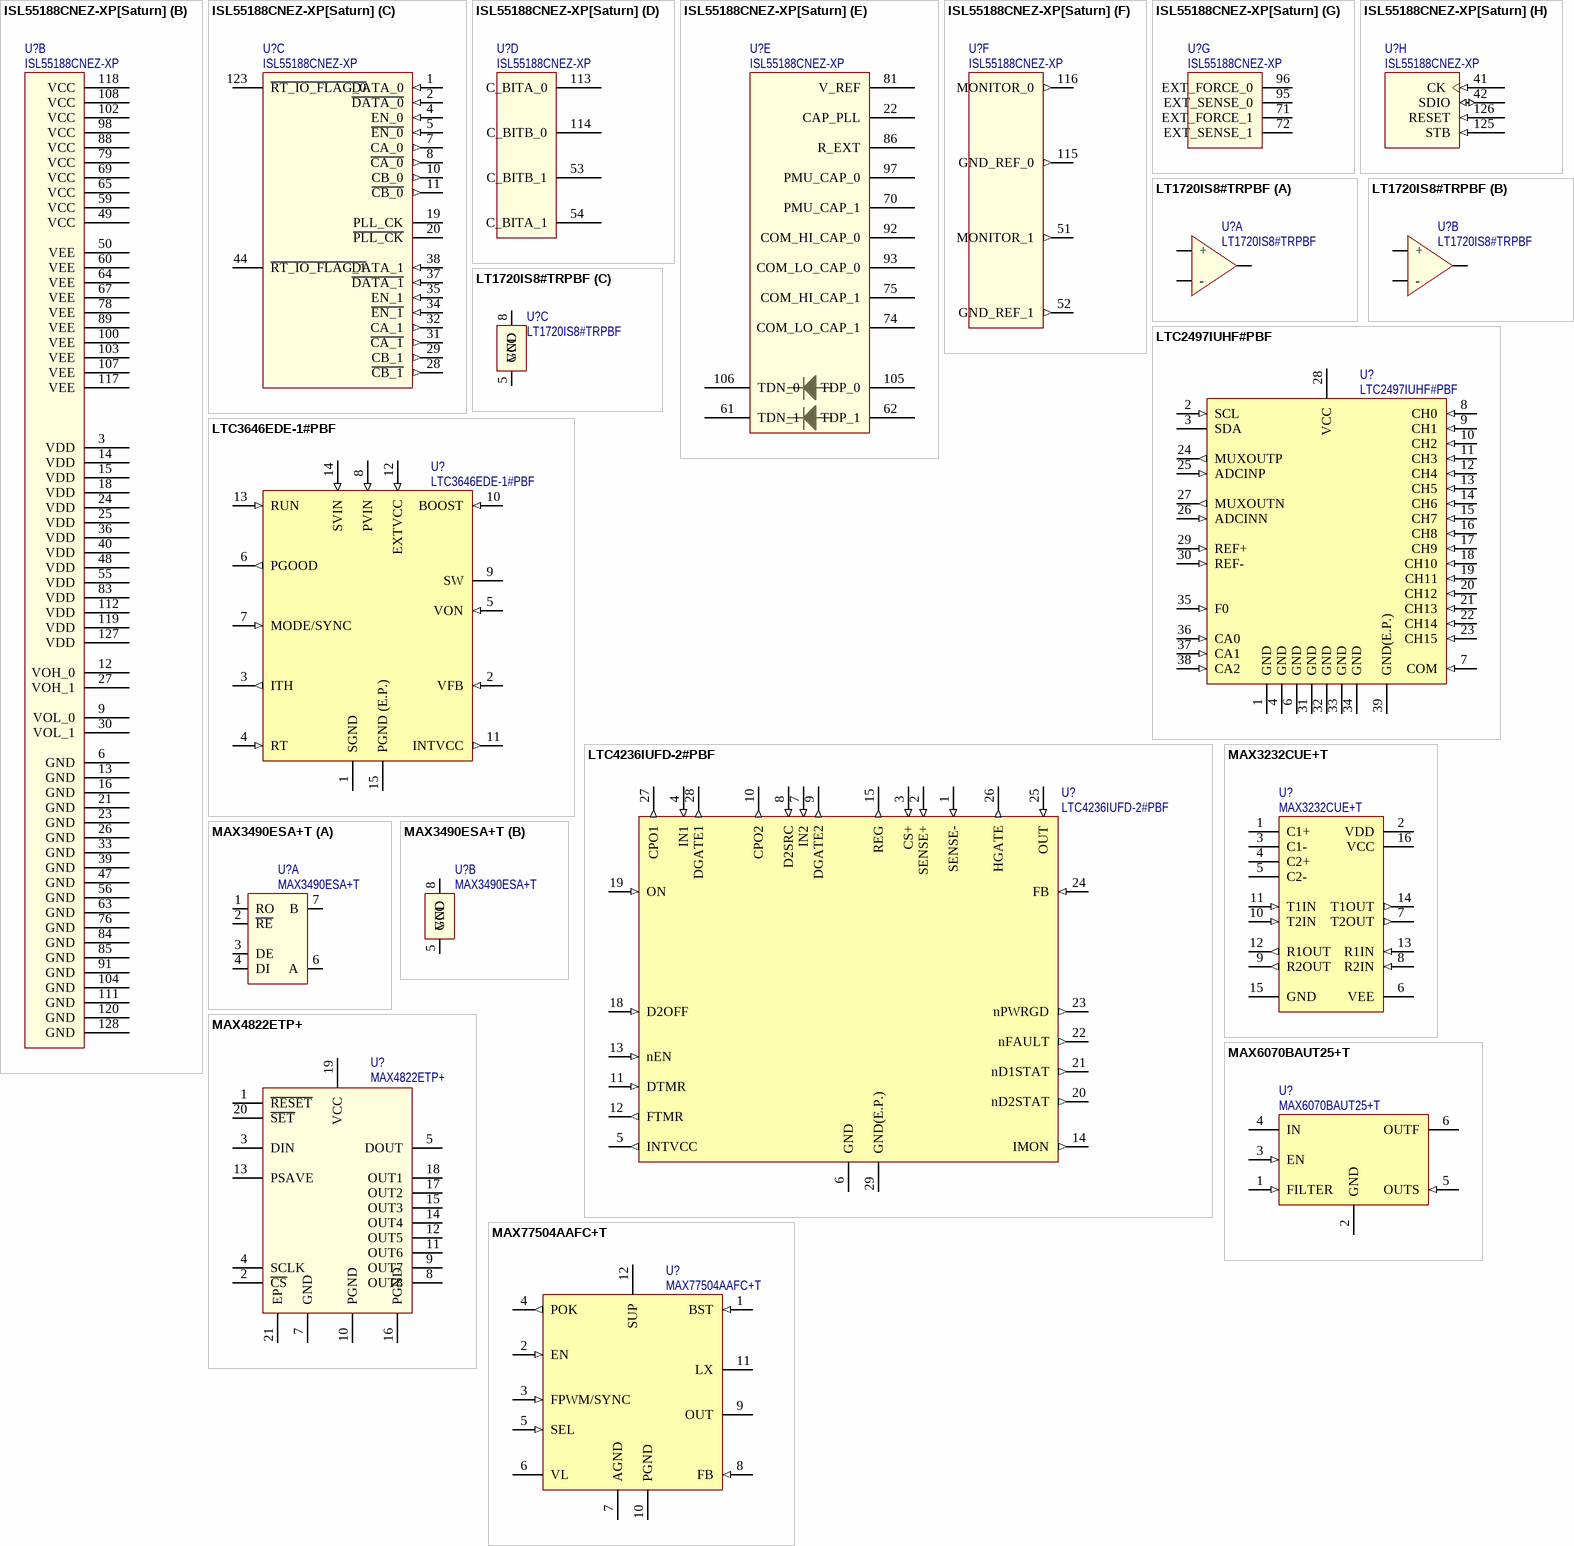
[diagram p3: symbols ISL55188CNEZ-XP[Saturn] to MAX77504AAFC+T]

## ISL55188CNEZ-XP[Saturn]
designator U?, comment ISL55188CNEZ-XP
Dual Channel, DCL + PMU (24V/75MHz); Manufacturer: ElevATE; Manufacturer Part Number: ISL55188CNEZ-XP; Supplier 1: ElevATE; Supplier Part Number 1: ISL55188CNEZ-XP; ComponentLink1Description: Supplier Info; ComponentLink2Description: Datasheet; Value: ISL55188CNEZ-XP
footprint Q128.14x20B
part A pins: 66 DOUT_1 (out), 68 DIN_1 (in), 80 DUT_GND_1 (in), 87 DUT_GND_0 (in), 99 DIN_0 (in), 101 DOUT_0 (out)
part B pins: 3 VDD (power), 6 GND (power), 9 VOL_0 (power), 12 VOH_0 (power), 13 GND (power), 14 VDD (power), 15 VDD (power), 16 GND (power), 18 VDD (power), 21 GND (power), 23 GND (power), 24 VDD (power), 25 VDD (power), 26 GND (power), 27 VOH_1 (power), 30 VOL_1 (power), 33 GND (power), 36 VDD (power), 39 GND (power), 40 VDD (power), 47 GND (power), 48 VDD (power), 49 VCC (power), 50 VEE (power), 55 VDD (power), 56 GND (power), 59 VCC (power), 60 VEE (power), 63 GND (power), 64 VEE (power), 65 VCC (power), 67 VEE (power), 69 VCC (power), 76 GND (power), 78 VEE (power), 79 VCC (power), 83 VDD (power), 84 GND (power), 85 GND (power), 88 VCC (power), 89 VEE (power), 91 GND (power), 98 VCC (power), 100 VEE (power), 102 VCC (power), 103 VEE (power), 104 GND (power), 107 VEE (power), 108 VCC (power), 111 GND (power), 112 VDD (power), 117 VEE (power), 118 VCC (power), 119 VDD (power), 120 GND (power), 127 VDD (power), 128 GND (power)
part C pins: 1 DATA_0 (in), 2 ~{DATA_0} (in) "DATA*_0", 4 EN_0 (in), 5 ~{EN_0} (in) "EN*_0", 7 CA_0 (out), 8 ~{CA_0} (out) "CA*_0", 10 CB_0 (out), 11 ~{CB_0} (out) "CB*_0", 19 PLL_CK, 20 ~{PLL_CK} "PLL_CK*", 28 ~{CB_1} (out) "CB*_1", 29 CB_1 (out), 31 ~{CA_1} (out) "CA*_1", 32 CA_1 (out), 34 ~{EN_1} (in) "EN*_1", 35 EN_1 (in), 37 ~{DATA_1} (in) "DATA*_1", 38 DATA_1 (in), 44 ~{RT_IO_FLAG_1} (oc) "RT_IO_FLAG*_1", 123 ~{RT_IO_FLAG_0} (oc) "RT_IO_FLAG*_0"
part D pins: 53 C_BITB_1 (oc), 54 C_BITA_1 (oc), 113 C_BITA_0 (oc), 114 C_BITB_0 (oc)
part E pins: 22 CAP_PLL, 61 TDN_1, 62 TDP_1, 70 PMU_CAP_1, 74 COM_LO_CAP_1, 75 COM_HI_CAP_1, 81 V_REF, 86 R_EXT, 92 COM_HI_CAP_0, 93 COM_LO_CAP_0, 97 PMU_CAP_0, 105 TDP_0, 106 TDN_0
part F pins: 51 MONITOR_1 (out), 52 GND_REF_1 (out), 115 GND_REF_0 (out), 116 MONITOR_0 (out)
part G pins: 71 EXT_FORCE_1, 72 EXT_SENSE_1, 95 EXT_SENSE_0, 96 EXT_FORCE_0
part H pins: 41 CK (in), 42 SDIO (io), 125 STB (in), 126 RESET (in)

## LT1720IS8#TRPBF
designator U?
IC; Comparator; GP; R-RINOUT; Dual; SOIC8; Manufacturer: Linear Technology/Analog Devices; Manufacturer Part Number: LT1720IS8#TRPBF; Supplier 1: DigiKey; Supplier Part Number 1: LT1720IS8#TRPBFDKR-ND; ComponentLink1Description: Supplier Info; ComponentLink1URL: https://www.digikey.co.uk/en/products/detail/analog-devices-inc/LT1720IS8-TRPBF/958983?s=N4IgTCBcDaIDIBUCMB2MAGAkgZQBwGIEAlABQCEAxAEQGkiBaAOSpAF0BfIA; ComponentLink2Description: Datasheet; ComponentLink2URL: https://www.analog.com/media/en/technical-documentation/data-sheets/17201fc.pdf; Value: LT1720IS8#TRPBF
footprint SOIC8 (R-8) (Generic 8 lead SOIC Narrow Body)
part A pins: 1 +, 2 -, 7 OUTA
part B pins: 3 -, 4 +, 6 OUTB
part C pins: 5 GND, 8 VCC

## LTC2497IUHF#PBF
designator U?
IC; ADC; 16-Bit; 8-/16-Inputs; Sigma-Delta ADC with Easy Drive Input Current Cancellation and I2C Interface; QFN38; Manufacturer: Analog Devices; Manufacturer Part Number: LTC2497IUHF#PBF; Supplier 1: Digi-key; Supplier Part Number 1: LTC2497IUHF#PBF-ND; ComponentLink1Description: Supplier Info; ComponentLink1URL: https://www.digikey.co.uk/en/products/detail/analog-devices-inc/LTC2497IUHF-PBF/1468479?s=N4IgTCBcDaIDIBUDCYAsBOA7ASQKoAkAxAYgAUAhQgWgDkAREAXQF8g; ComponentLink2Description: Datasheet; ComponentLink2URL: https://www.analog.com/media/en/technical-documentation/data-sheets/2497fb.pdf; Value: LTC2497IUHF#PBF
footprint LT-UHF38 (Footprint not found)
pins: 1 GND (power), 2 SCL (in), 3 SDA (hiz), 4 GND (power), 6 GND (power), 7 COM (in), 8 CH0 (in), 9 CH1 (in), 10 CH2 (in), 11 CH3 (in), 12 CH4 (in), 13 CH5 (in), 14 CH6 (in), 15 CH7 (in), 16 CH8 (in), 17 CH9 (in), 18 CH10 (in), 19 CH11 (in), 20 CH12 (in), 21 CH13 (in), 22 CH14 (in), 23 CH15 (in), 24 MUXOUTP (out), 25 ADCINP (in), 26 ADCINN (in), 27 MUXOUTN (out), 28 VCC (power), 29 REF+ (in), 30 REF- (in), 31 GND (power), 32 GND (power), 33 GND (power), 34 GND (power), 35 F0 (in), 36 CA0 (in), 37 CA1 (in), 38 CA2 (in), 39 GND(E.P.) (power)

## LTC3646EDE-1#PBF
designator U?
IC; Regulator; Buck; Adjustable; 1A; DFN14; Manufacturer: Linear Technology/Analog Devices; Manufacturer Part Number: LTC3646EDE-1#PBF; Supplier 1: DigiKey; Supplier Part Number 1: LTC3646EDE-1#PBF-ND; ComponentLink1Description: Supplier Info; ComponentLink1URL: https://www.digikey.co.uk/en/products/detail/analog-devices-inc/LTC3646EDE-1-PBF/3844839?s=N4IgTCBcDaIDIBUDCBmAbAFjQUQCLYFoBGAYgAUAhAMQIDlcQBdAXyA; ComponentLink2Description: Datasheet; ComponentLink2URL: http://www.linear.com/docs/42459; Value: LTC3646EDE-1#PBF
footprint DE14
pins: 1 SGND (power), 2 VFB (in), 3 ITH (out), 4 RT (in), 5 VON (in), 6 PGOOD (out), 7 MODE/SYNC (in), 8 PVIN (in), 9 SW (hiz), 10 BOOST (in), 11 INTVCC (out), 12 EXTVCC (in), 13 RUN (in), 14 SVIN (in), 15 PGND (E.P.) (power)

## LTC4236IUFD-2#PBF
designator U?
IC; Power Management; Dual Ideal Diode-OR and Single Hot Swap Controller with Current Monitor, Auto-Retry after Fault; Manufacturer: Linear Technology/Analog Devices; Manufacturer Part Number: LTC4229IUFD#PBF; Supplier 1: Mouser; Supplier Part Number 1: 584-LTC4236IUFD-2PBF; ComponentLink1Description: Supplier Info; ComponentLink1URL: https://eu.mouser.com/ProductDetail/Analog-Devices/LTC4236IUFD-2PBF?qs=%2Fha2pyFaduhslB6zepk2GaIa3mYHNnygWzOQMSV7O6e4kZe1llflgisn%252B5ibcRsb; ComponentLink2Description: Datasheet; ComponentLink2URL: https://www.analog.com/media/en/technical-documentation/data-sheets/4236f.pdf; Value: LTC4236IUFD-2#PBF
footprint LT-UFD28-4mmx5mm (Footprint not found)
pins: 1 SENSE- (in), 2 SENSE+ (in), 3 CS+ (in), 4 IN1 (in), 5 INTVCC (out), 6 GND (power), 7 IN2 (in), 8 D2SRC (in), 9 DGATE2 (out), 10 CPO2 (out), 11 DTMR (in), 12 FTMR (out), 13 nEN (in), 14 IMON (out), 15 REG (out), 18 D2OFF (in), 19 ON (in), 20 nD2STAT (out), 21 nD1STAT (out), 22 nFAULT (out), 23 nPWRGD (out), 24 FB (in), 25 OUT (in), 26 HGATE (out), 27 CPO1 (out), 28 DGATE1 (out), 29 GND(E.P.) (power)

## MAX3232CUE+T
designator U?
IC; Transceiver; RS232; TSSOP16; Manufacturer: Maxim Integrated; Manufacturer Part Number: MAX3232CUE+T; Supplier 1: DigiKey; Supplier Part Number 1: MAX3232CUE+TDKR-ND; ComponentLink1Description: Supplier Info; ComponentLink1URL: https://www.digikey.co.uk/en/products/detail/maxim-integrated/MAX3232CUE-T/1515220?s=N4IgTCBcDaILIEEAaBmMaDCBVAogagBUARAaQCUBaAOSJAF0BfIA; ComponentLink2Description: Datasheet; ComponentLink2URL: https://datasheets.maximintegrated.com/en/ds/MAX3222-MAX3241.pdf; Value: MAX3232CUE+T
footprint TSSOP16
pins: 1 C1+, 2 VDD (power), 3 C1-, 4 C2+, 5 C2-, 6 VEE (power), 7 T2OUT (out), 8 R2IN (in), 9 R2OUT (out), 10 T2IN (in), 11 T1IN (in), 12 R1OUT (out), 13 R1IN (in), 14 T1OUT (out), 15 GND (power), 16 VCC (power)

## MAX3490ESA+T
designator U?
IC: Transceiver; RS422; RS485; SOIC8; Manufacturer: Maxim Integrated; Manufacturer Part Number: MAX3490ESA+T; Supplier 1: Digi-Key; Supplier Part Number 1: MAX3490ESA+TDKR-ND; ComponentLink1Description: Supplier Info; ComponentLink1URL: https://www.digikey.co.uk/en/products/detail/maxim-integrated/MAX3490ESA-T/1703395?s=N4IgTCBcDaILIEEAaBmALATgAwFEDKCA1ACoAiA0gEoC0AcqSALoC%2BQA; ComponentLink2Description: Datasheet; ComponentLink2URL: https://datasheets.maximintegrated.com/en/ds/MAX3483-MAX3491.pdf; Value: MAX3490ESA+T
footprint SOIC8 (R-8) (Generic 8 lead SOIC Narrow Body)
part A pins: 1 RO, 2 ~{RE}, 3 DE, 4 DI, 6 A, 7 B
part B pins: 5 GND, 8 VCC

## MAX4822ETP+
designator U?
IC; Power Switch/Drvier; 1:8; N-Channel; TQFN20; Manufacturer: Maxim Integrated; Manufacturer Part Number: MAX4822ETP+; Supplier 1: DigiKey; Supplier Part Number 1: MAX4822ETP+-ND; ComponentLink1Description: Supplier Info; ComponentLink1URL: https://www.digikey.co.uk/en/products/detail/maxim-integrated/MAX4822ETP/1779742?s=N4IgTCBcDaILIEEAaAWAHGMBRAKgBQGoBaAOQBEQBdAXyA; ComponentLink2Description: Datasheet; ComponentLink2URL: https://datasheets.maximintegrated.com/en/ds/MAX4822-MAX4825.pdf; Value: MAX4822ETP+
footprint T2044-3 (20-Pin TQFN Package (4mm x 4mm))
pins: 1 ~{RESET}, 2 ~{CS}, 3 DIN, 4 SCLK, 5 DOUT, 7 GND, 8 OUT8, 9 OUT7, 10 PGND, 11 OUT6, 12 OUT5, 13 PSAVE, 14 OUT4, 15 OUT3, 16 PGND, 17 OUT2, 18 OUT1, 19 VCC, 20 ~{SET}, 21 EP

## MAX6070BAUT25+T
designator U?
IC; Series VREF; 2.5V; 0.08%; SOT23-6; Manufacturer: MAXIM; Manufacturer Part Number: MAX6070BAUT25+T; Supplier 1: Digi-key; Supplier Part Number 1: ADR4550BRZ-R7DKR-ND; ComponentLink1Description: Supplier Info; ComponentLink1URL: https://www.digikey.co.uk/en/products/detail/maxim-integrated/MAX6070BAUT25-T/3829324?s=N4IgTCBcDaILIEEAaA2ADAdjQIQQVQBUwBWAagIBEBpAJQFoA5CkAXQF8g; ComponentLink2Description: Datasheet; ComponentLink2URL: https://datasheets.maximintegrated.com/en/ds/MAX6070-MAX6071.pdf; Value: MAX6070BAUT25+T
footprint MAXIM-SOT23-6 (Footprint not found)
pins: 1 FILTER (in), 2 GND (power), 3 EN (in), 4 IN (power), 5 OUTS (in), 6 OUTF (hiz)

## MAX77504AAFC+T
designator U?
IC; Power Management; 14V Input, 3A High-Efficiency Buck Converter; FC2QFN12; Manufacturer: Maxim Integrated; Manufacturer Part Number: MAX77504AAFC+T; Supplier 1: Mouser; Supplier Part Number 1: 700-MAX77504AAFC+T; ComponentLink1Description: Supplier Info; ComponentLink1URL: https://eu.mouser.com/ProductDetail/Maxim-Integrated/MAX77504AAFC%2bT?qs=%2Fha2pyFadugnSPU0DPq1VMsBkGe3DvBh1xJTCmizER1maRd4ctvesZe%252Bz5QAkSW6; ComponentLink2Description: Datasheet; ComponentLink2URL: https://eu.mouser.com/datasheet/2/256/MAX77504-1670644.pdf; Value: MAX77504AAFC+T
footprint MAXIM-FC2QFN-12L (QFN, 14-Leads, Body 2.50x2.50mm, Pitch 0.50mm, IPC High Density)
pins: 1 BST (in), 2 EN (in), 3 FPWM/SYNC (in), 4 POK (out), 5 SEL (in), 6 VL (hiz), 7 AGND (power), 8 FB (in), 9 OUT (hiz), 10 PGND (power), 11 LX (hiz), 12 SUP (power)

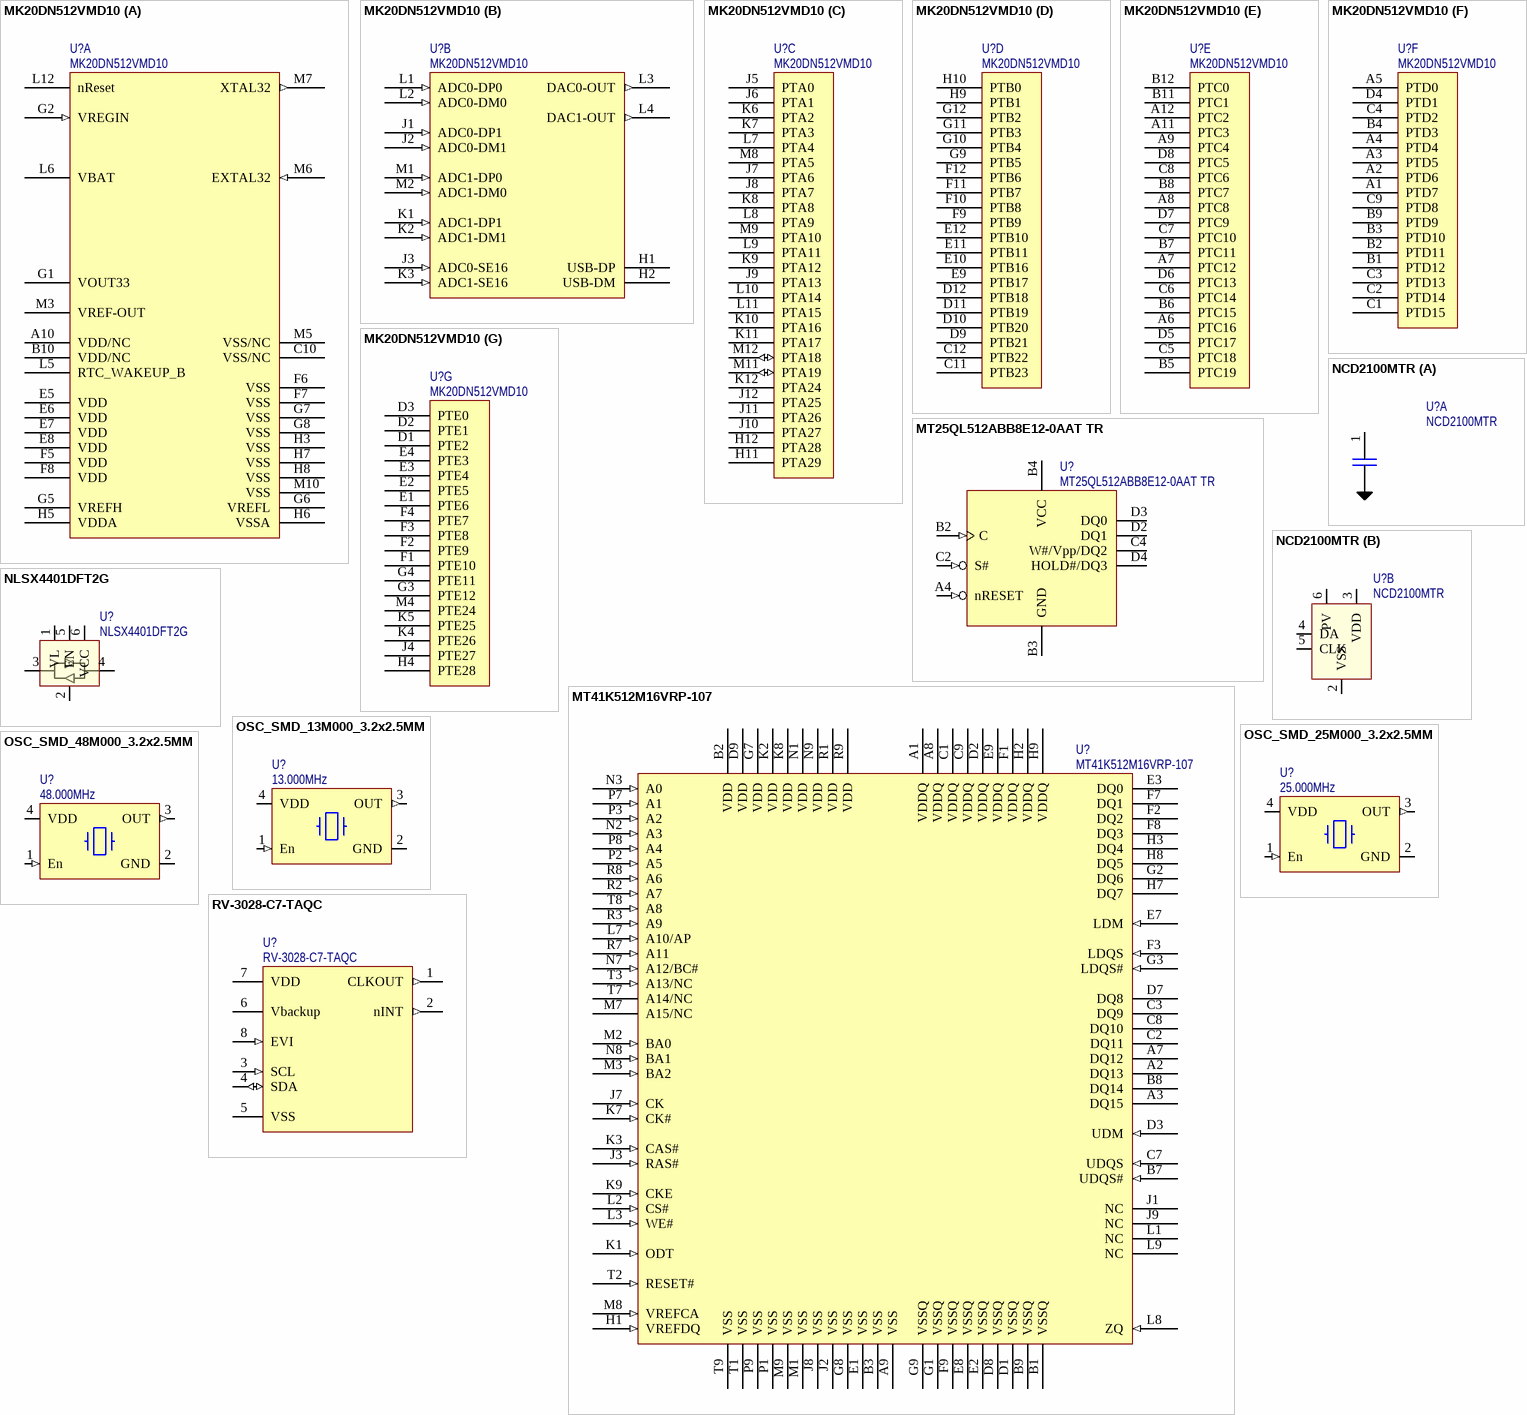
[diagram p4: symbols MK20DN512VMD10 to RV-3028-C7-TAQC]

## MK20DN512VMD10
designator U?
IC; MCU (ARM Cortex-M4); 32-Bit; 512KB; FLASH; BGA144; Manufacturer: NXP USA Inc.; Manufacturer Part Number: MK20DN512VMD10; Supplier 1: DigiKey; Supplier Part Number 1: MK20DN512VMD10-ND; ComponentLink1Description: Supplier Info; ComponentLink1URL: https://www.digikey.co.uk/en/products/detail/nxp-usa-inc/MK20DN512VMD10/3873857?s=N4IgTCBcDaILIGkwAYAiA5ArARjANTlW2QFp1UQBdAXyA; ComponentLink2Description: Datasheet; ComponentLink2URL: https://www.nxp.com/docs/en/data-sheet/K20P144M100SF2V2.pdf; Value: MK20DN512VMD10
footprint MAPBGA144 (NXP BGA, 144-Leads, Body 13.00x13.00mmx1.70mm, Pitch 1.00mm (Document No: 98ASA00222D))
part A pins: A10 VDD/NC, B10 VDD/NC, C10 VSS/NC, E5 VDD (power), E6 VDD (power), E7 VDD (power), E8 VDD (power), F5 VDD (power), F6 VSS (power), F7 VSS (power), F8 VDD (power), G1 VOUT33, G2 VREGIN (in), G5 VREFH (power), G6 VREFL (power), G7 VSS (power), G8 VSS (power), H3 VSS (power), H5 VDDA (power), H6 VSSA (power), H7 VSS (power), H8 VSS (power), L5 RTC_WAKEUP_B, L6 VBAT (power), L12 nReset, M3 VREF-OUT, M5 VSS/NC, M6 EXTAL32 (in), M7 XTAL32 (out), M10 VSS (power)
part B pins: H1 USB-DP (hiz), H2 USB-DM (hiz), J1 ADC0-DP1 (in), J2 ADC0-DM1 (in), J3 ADC0-SE16 (in), K1 ADC1-DP1 (in), K2 ADC1-DM1 (in), K3 ADC1-SE16 (in), L1 ADC0-DP0 (in), L2 ADC0-DM0 (in), L3 DAC0-OUT (out), L4 DAC1-OUT (out), M1 ADC1-DP0 (in), M2 ADC1-DM0 (in)
part C pins: H11 PTA29 (hiz), H12 PTA28 (hiz), J5 PTA0 (hiz), J6 PTA1 (hiz), J7 PTA6 (hiz), J8 PTA7 (hiz), J9 PTA13 (hiz), J10 PTA27 (hiz), J11 PTA26 (hiz), J12 PTA25 (hiz), K6 PTA2 (hiz), K7 PTA3 (hiz), K8 PTA8 (hiz), K9 PTA12 (hiz), K10 PTA16 (hiz), K11 PTA17 (hiz), K12 PTA24 (hiz), L7 PTA4 (hiz), L8 PTA9 (hiz), L9 PTA11 (hiz), L10 PTA14 (hiz), L11 PTA15 (hiz), M8 PTA5 (hiz), M9 PTA10 (hiz), M11 PTA19 (io), M12 PTA18 (io)
part D pins: C11 PTB23 (hiz), C12 PTB22 (hiz), D9 PTB21 (hiz), D10 PTB20 (hiz), D11 PTB19 (hiz), D12 PTB18 (hiz), E9 PTB17 (hiz), E10 PTB16 (hiz), E11 PTB11 (hiz), E12 PTB10 (hiz), F9 PTB9 (hiz), F10 PTB8 (hiz), F11 PTB7 (hiz), F12 PTB6 (hiz), G9 PTB5 (hiz), G10 PTB4 (hiz), G11 PTB3 (hiz), G12 PTB2 (hiz), H9 PTB1 (hiz), H10 PTB0 (hiz)
part E pins: A6 PTC16 (hiz), A7 PTC12 (hiz), A8 PTC8 (hiz), A9 PTC4 (hiz), A11 PTC3 (hiz), A12 PTC2 (hiz), B5 PTC19 (hiz), B6 PTC15 (hiz), B7 PTC11 (hiz), B8 PTC7 (hiz), B11 PTC1 (hiz), B12 PTC0 (hiz), C5 PTC18 (hiz), C6 PTC14 (hiz), C7 PTC10 (hiz), C8 PTC6 (hiz), D5 PTC17 (hiz), D6 PTC13 (hiz), D7 PTC9 (hiz), D8 PTC5 (hiz)
part F pins: A1 PTD7 (hiz), A2 PTD6 (hiz), A3 PTD5 (hiz), A4 PTD4 (hiz), A5 PTD0 (hiz), B1 PTD12 (hiz), B2 PTD11 (hiz), B3 PTD10 (hiz), B4 PTD3 (hiz), B9 PTD9 (hiz), C1 PTD15 (hiz), C2 PTD14 (hiz), C3 PTD13 (hiz), C4 PTD2 (hiz), C9 PTD8 (hiz), D4 PTD1 (hiz)
part G pins: D1 PTE2 (hiz), D2 PTE1 (hiz), D3 PTE0 (hiz), E1 PTE6 (hiz), E2 PTE5 (hiz), E3 PTE4 (hiz), E4 PTE3 (hiz), F1 PTE10 (hiz), F2 PTE9 (hiz), F3 PTE8 (hiz), F4 PTE7 (hiz), G3 PTE12 (hiz), G4 PTE11 (hiz), H4 PTE28 (hiz), J4 PTE27 (hiz), K4 PTE26 (hiz), K5 PTE25 (hiz), M4 PTE24 (hiz)

## MT25QL512ABB8E12-0AAT TR
designator U?
IC; FLASH; 512Mb (64Mx8); SPI; 133MHz; TPBGA24; Manufacturer: Micron Technology Inc.; Manufacturer Part Number: MT25QL512ABB8E12-0AAT; Supplier 1: DigiKey; Supplier Part Number 1: 557-1823-6-ND; ComponentLink1Description: Supplier Info; ComponentLink1URL: https://www.digikey.co.uk/en/products/detail/micron-technology-inc/MT25QL512ABB8E12-0AAT-TR/6135954?s=N4IgTCBcDaIKxwOwFoCMAOMBmZA2ZAcgCIgC6AvkA; ComponentLink2Description: Datasheet; ComponentLink2URL: https://www.micron.com/~/media/documents/products/data-sheet/nor-flash/serial-nor/mt25q/die-rev-b/mt25q_qlkt_l_512_abb_0.pdf; Value: MT25QL512ABB8E12-0AAT TR
footprint T-PBGA24 (BGA100P9X9-81A)
pins: A4 nRESET (in), B2 C (in), B3 GND (power), B4 VCC (power), C2 S# (in), C4 W#/Vpp/DQ2 (hiz), D2 DQ1 (hiz), D3 DQ0 (hiz), D4 HOLD#/DQ3 (hiz)

## MT41K512M16VRP-107
designator U?, comment value MT41K512M16VRP-107  (hidden comment: MT41K512M16VRP-107 AAT:P)
IC; Memory; DRAM DDR3; TwinDie 1.35V; 64 Meg x 16 x 8 Banks; VFBGA96; Manufacturer: Micron Technology Inc.; Manufacturer Part Number: MT41K512M16VRP-107 AAT:P; Supplier 1: Mouser; Supplier Part Number 1: 340-446578-TRAY; ComponentLink1Description: Supplier Info; ComponentLink1URL: https://eu.mouser.com/ProductDetail/Micron/MT41K512M16VRP-107-AATP?qs=%2Fha2pyFadujdXIWT0HKWUcHGfgb40%2FSb6lyrJoUPmNfNkTaa0bj6ZQ%3D%3D; ComponentLink2Description: Datasheet; ComponentLink2URL: https://eu.mouser.com/datasheet/2/671/DDR3L_8Gb_x16_1CS_TwinDie_V00H-1840279.pdf
footprint VFBGA96 (Footprint not found)
pins: A1 VDDQ (power), A2 DQ13 (hiz), A3 DQ15 (hiz), A7 DQ12 (hiz), A8 VDDQ (power), A9 VSS (power), B1 VSSQ (power), B2 VDD (power), B3 VSS (power), B7 UDQS# (in), B8 DQ14 (hiz), B9 VSSQ (power), C1 VDDQ (power), C2 DQ11 (hiz), C3 DQ9 (hiz), C7 UDQS (in), C8 DQ10 (hiz), C9 VDDQ (power), D1 VSSQ (power), D2 VDDQ (power), D3 UDM (in), D7 DQ8 (hiz), D8 VSSQ (power), D9 VDD (power), E1 VSS (power), E2 VSSQ (power), E3 DQ0 (hiz), E7 LDM (in), E8 VSSQ (power), E9 VDDQ (power), F1 VDDQ (power), F2 DQ2 (hiz), F3 LDQS (in), F7 DQ1 (hiz), F8 DQ3 (hiz), F9 VSSQ (power), G1 VSSQ (power), G2 DQ6 (hiz), G3 LDQS# (in), G7 VDD (power), G8 VSS (power), G9 VSSQ (power), H1 VREFDQ (in), H2 VDDQ (power), H3 DQ4 (hiz), H7 DQ7 (hiz), H8 DQ5 (hiz), H9 VDDQ (power), J1 NC, J2 VSS (power), J3 RAS# (in), J7 CK (in), J8 VSS (power), J9 NC, K1 ODT (in), K2 VDD (power), K3 CAS# (in), K7 CK# (in), K8 VDD (power), K9 CKE (in), L1 NC, L2 CS# (in), L3 WE# (in), L7 A10/AP (in), L8 ZQ (in), L9 NC, M1 VSS (power), M2 BA0 (in), M3 BA2 (in), M7 A15/NC, M8 VREFCA (in), M9 VSS (power), N1 VDD (power), N2 A3 (in), N3 A0 (in), N7 A12/BC# (in), N8 BA1 (in), N9 VDD (power), P1 VSS (power), P2 A5 (in), P3 A2 (in), P7 A1 (in), P8 A4 (in), P9 VSS (power), R1 VDD (power), R2 A7 (in), R3 A9 (in), R7 A11 (in), R8 A6 (in), R9 VDD (power), T1 VSS (power), T2 RESET# (in), T3 A13/NC (in), T7 A14/NC, T8 A8 (in), T9 VSS (power)

## NCD2100MTR
designator U?
IC; Digital Capacitor; DFN6; Manufacturer: IXYS Integrated Circuits Division; Manufacturer Part Number: NCD2100MTR; Supplier 1: DigiKey; Supplier Part Number 1: CLA4143-2-ND; ComponentLink1Description: Supplier Info; ComponentLink1URL: https://www.digikey.co.uk/en/products/detail/ixys-integrated-circuits-division/NCD2100MTR/4918504?s=N4IgTCBcDaIMIBkCCAWAjCgzAWjNgcgCIgC6AvkA; ComponentLink2Description: Datasheet; ComponentLink2URL: https://www.ixysic.com/home/pdfs.nsf/www/NCD2100.pdf/$file/NCD2100.pdf; Value: NCD2100MTR
footprint DFN6 (6-DFN)
part A pins: 1 X1
part B pins: 2 VSS, 3 VDD, 4 DA, 5 CLK (power), 6 PV (power)

## NLSX4401DFT2G
designator U?
IC; Translator; Bidirectional; 1 Circuit; 1 Channel; SC70-6; Manufacturer: ON Semiconductor; Manufacturer Part Number: NLSX4401DFT2G; Supplier 1: DigiKey; Supplier Part Number 1: NLSX4401DFT2G-ND; ComponentLink1Description: Supplier Info; ComponentLink1URL: https://www.digikey.co.uk/en/products/detail/onsemi/NLSX4401DFT2G/10322003?s=N4IgTCBcDaIHIBkDKANALGgDARgCIDEAVMAcQFo5cQBdAXyA; ComponentLink2Description: Datasheet; ComponentLink2URL: https://www.onsemi.com/pub/Collateral/NLSX4401DFT2G-D.PDF; Value: NLSX4401DFT2G
footprint SC70-6
pins: 1 VL, 2 GND, 3 IOVL, 4 IOVCC, 5 EN, 6 VCC

## OSC_SMD_13M000_3.2x2.5MM
designator U?, comment value 13.000MHz  (hidden comment: 632L3I013M00000)
Crystal; Oscillator; 13.000MHZ; CMOS; SMD 3.2x2.5mm; Manufacturer: CTS-Frequency Controls; ComponentLink1Description: Datasheet; ComponentLink1URL: https://www.ctscorp.com/wp-content/uploads/2015/11/008-0328-0.pdf; ComponentLink2Description: Supplier Info; ComponentLink2URL: https://www.digikey.co.uk/en/products/detail/cts-frequency-controls/632L3I013M00000/2637161?s=N4IgTCBcDaIMIBUAaBGMBmdiC0A5AIiALoC%2BQA; Manufacturer Part Number: 632L3I013M00000; Supplier 1: Digi-key; Supplier Part Number 1: CTX1233CT-ND
footprint CTS-632-3.2mmx2.5mm
pins: 1 En (in), 2 GND (power), 3 OUT (out), 4 VDD (power)

## OSC_SMD_25M000_3.2x2.5MM
designator U?, comment value 25.000MHz  (hidden comment: ASE-25.000MHZ-LC-T)
Crystal; Oscillator; 25.000MHZ; CMOS; SMD 3.2x2.5mm; Manufacturer: Abracon LLC; ComponentLink1Description: Datasheet; ComponentLink1URL: https://abracon.com/Oscillators/ASEseries.pdf; ComponentLink2Description: Supplier Info; ComponentLink2URL: https://www.digikey.co.uk/en/products/detail/abracon-llc/ASE-25-000MHZ-LC-T/1236885?s=N4IgTCBcDaIKwGY4FoCccBsAOZBGZAcgCIgC6AvkA; Manufacturer Part Number: ASE-25.000MHZ-LC-T; Supplier 1: Digi-key; Supplier Part Number 1: 535-9568-1-ND
footprint XTAL5x3.2
pins: 1 En (in), 2 GND (power), 3 OUT (out), 4 VDD (power)

## OSC_SMD_48M000_3.2x2.5MM
designator U?, comment value 48.000MHz  (hidden comment: ASE-48.000MHZ-LC-T)
Crystal; Oscillator; 48.000MHZ; CMOS; SMD 3.2x2.5mm; Manufacturer: Abracon LLC; Manufacturer Part Number: ASE-48.000MHZ-LC-T; Supplier 1: Digi-Key; Supplier Part Number 1: 535-9576-1-ND; ComponentLink1Description: Supplier Info; ComponentLink1URL: https://www.digikey.co.uk/en/products/detail/abracon-llc/ASE-48-000MHZ-LC-T/1236893?s=N4IgTCBcDaIKwGY4FoCccDsA2ZBGZAcgCIgC6AvkA; ComponentLink2Description: Datasheet; ComponentLink2URL: https://abracon.com/Oscillators/ASEseries.pdf
footprint XTAL5x3.2
pins: 1 En (in), 2 GND (power), 3 OUT (out), 4 VDD (power)

## RV-3028-C7-TAQC
designator U?, comment value RV-3028-C7-TAQC  (hidden comment: RV-3028-C7 32.768kHz 1ppm TA QC)
IC; Real-Time Clock Module with I2C-Bus; Manufacturer: Micro Crystal; ComponentLink1Description: Supplier Info; ComponentLink2Description: Datasheet; Manufacturer Part Number: RV-3028-C7 32.768kHz 1ppm TA QC; Supplier 1: Mouser; Supplier Part Number 1: 428-203591-MG01
footprint MicroCrystal-C7-3.2x1.5 (C7 Package from Microcrystal 3.2 mm x 1.5 mm x 0.8 mm)
pins: 1 CLKOUT (out), 2 nINT (out), 3 SCL (in), 4 SDA (io), 5 VSS (power), 6 Vbackup (power), 7 VDD (power), 8 EVI (in)

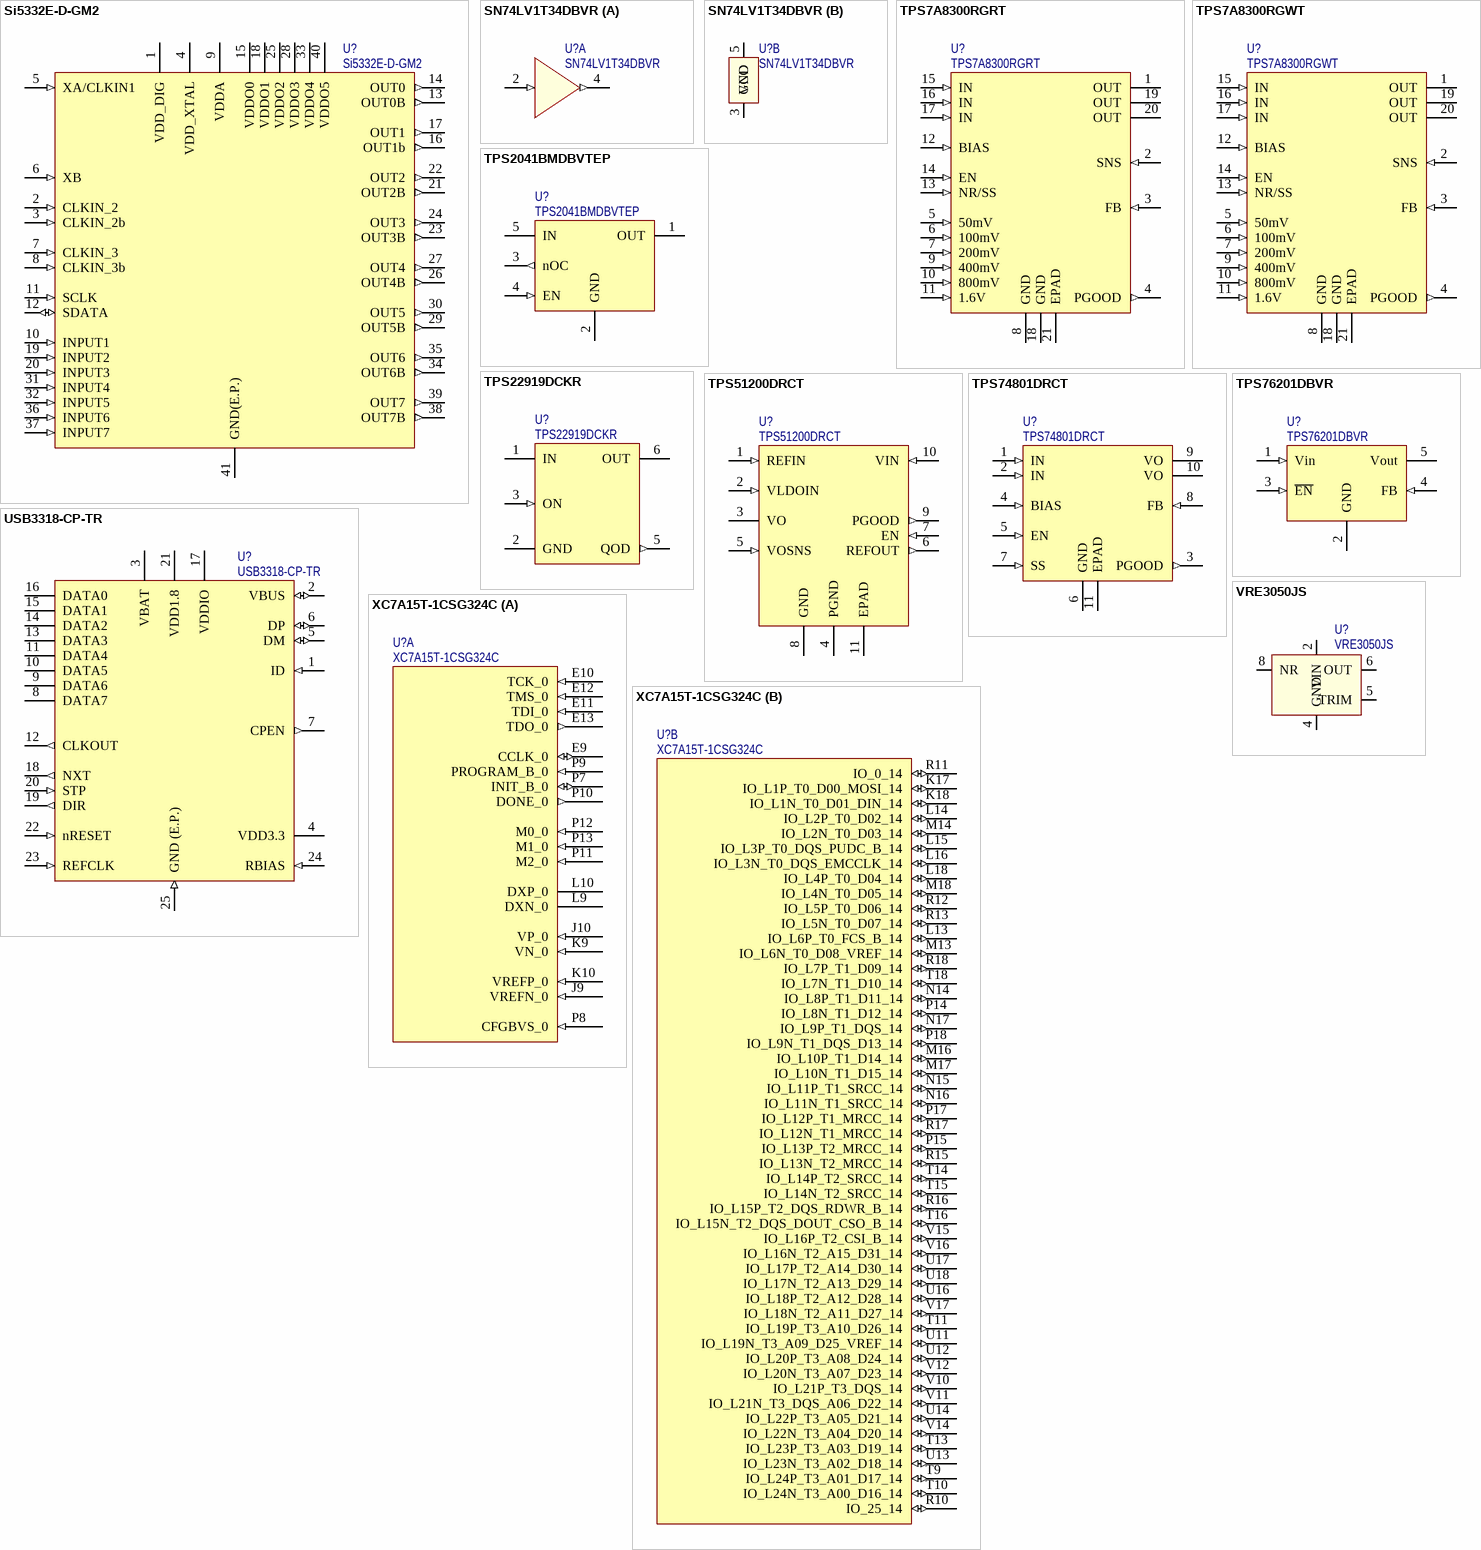
[diagram p5: symbols Si5332E-D-GM2 to XC7A15T-1CSG324C]

## Si5332E-D-GM2
designator U?
IC; Clock Generator (Any-Frequency Clock Generator); QFN40; Manufacturer: Skyworks Solutions Inc.; Manufacturer Part Number: Si5332E-D-GM2; Supplier 1: Mouser; Supplier Part Number 1: 634-SI5332E-D-GM2; ComponentLink1Description: Supplier Info; ComponentLink1URL: https://eu.mouser.com/ProductDetail/Skyworks-Solutions-Inc/Si5332E-D-GM2?qs=w%2Fv1CP2dgqrcnwOYmkSidw%3D%3D; ComponentLink2Description: Datasheet; ComponentLink2URL: https://www.silabs.com/documents/public/data-sheets/si5334x-datasheet.pdf; Value: Si5332E-D-GM2
footprint Silabs-QFN40 (Footprint not found)
pins: 1 VDD_DIG (power), 2 CLKIN_2 (in), 3 CLKIN_2b (in), 4 VDD_XTAL (power), 5 XA/CLKIN1 (in), 6 XB (in), 7 CLKIN_3 (in), 8 CLKIN_3b (in), 9 VDDA (power), 10 INPUT1 (in), 11 SCLK (in), 12 SDATA (io), 13 OUT0B (out), 14 OUT0 (out), 15 VDDO0 (power), 16 OUT1b (out), 17 OUT1 (out), 18 VDDO1 (power), 19 INPUT2 (in), 20 INPUT3 (in), 21 OUT2B (out), 22 OUT2 (out), 23 OUT3B (out), 24 OUT3 (out), 25 VDDO2 (power), 26 OUT4B (out), 27 OUT4 (out), 28 VDDO3 (power), 29 OUT5B (out), 30 OUT5 (out), 31 INPUT4 (in), 32 INPUT5 (in), 33 VDDO4 (power), 34 OUT6B (out), 35 OUT6 (out), 36 INPUT6 (in), 37 INPUT7 (in), 38 OUT7B (out), 39 OUT7 (out), 40 VDDO5 (power), 41 GND(E.P.) (power)

## SN74LV1T34DBVR
designator U?
IC; Buffer; Non-Inverting; 1 Element; SOT23-5; Manufacturer: Texas Instruments; Manufacturer Part Number: SN74LV1T34DBVR; Supplier 1: Digi-Key; Supplier Part Number 1: 296-37176-1-ND; ComponentLink1Description: Supplier Info; ComponentLink1URL: https://www.digikey.co.uk/en/products/detail/texas-instruments/SN74LV1T34DBVR/4555575?s=N4IgTCBcDa4JwDYC0BmA7ARjcjSByAIiALoC%2BQA; ComponentLink2Description: Datasheet; ComponentLink2URL: https://www.ti.com/general/docs/suppproductinfo.tsp?distId=10&gotoUrl=https%3A%2F%2Fwww.ti.com%2Flit%2Fgpn%2Fsn74lv1t34; Value: SN74LV1T34DBVR
footprint SOT-23-5 (SOT25, SOT753, MO-178AA, SC-74A, SMT5; 5 Leads; Pitch 0.95mm; Body 3.1 x 3 mm, inc. leads (LxW max))
part A pins: 2 A (in), 4 Y (out)
part B pins: 3 GND, 5 VCC